# Altium schematic symbol library Library_Diana.SchLib: 310 symbols (part 2 of 3)
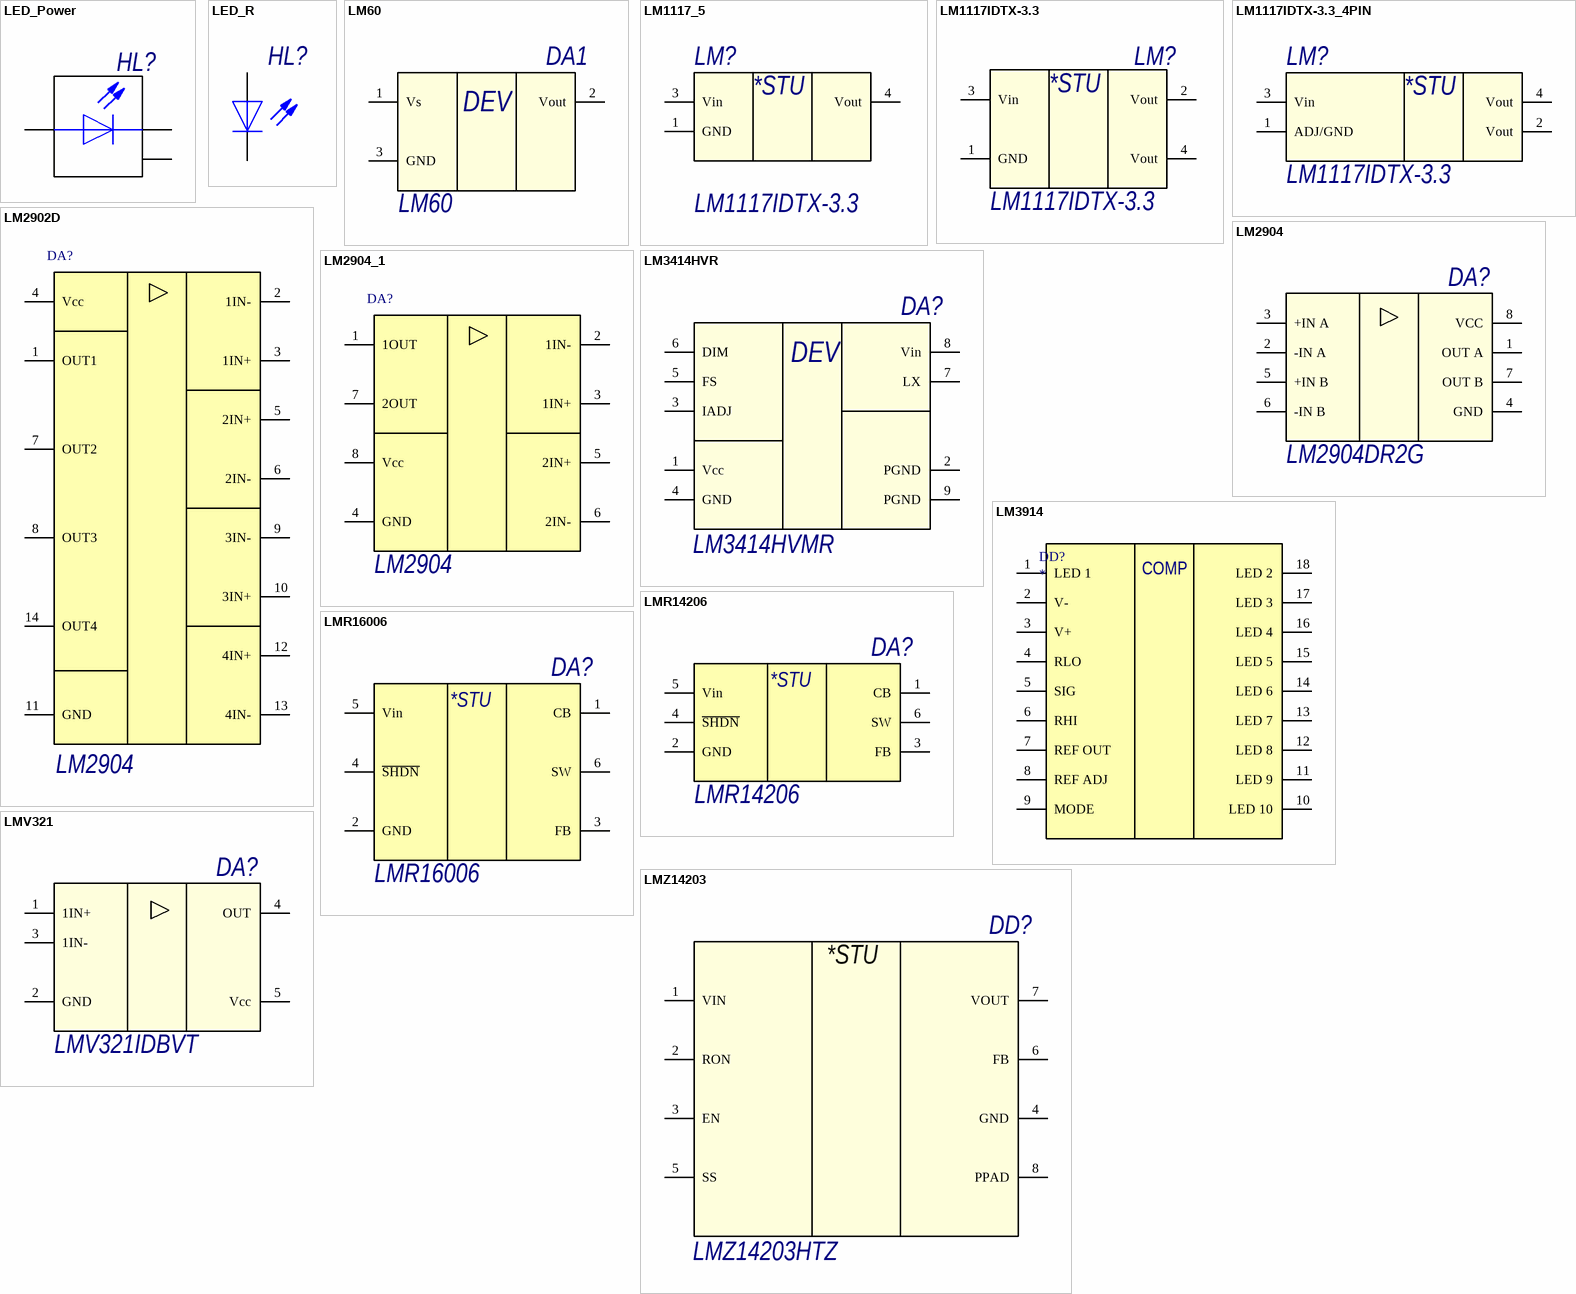
[diagram p41: symbols LED_Power to LMZ14203]

## LM3414HVR
designator DA?, comment LM3414HVMR
Драйвер светодиодов, понижающий 1А, 60В,; Part Description: 60W Common Anode Capable Constant Current Buck LED Driver Requires No Ext. Current Sensing Res; Manufacturer: Texas Instruments; Max Current: 1A; Frequency: 1MHz; VoltageOut: 60V; VoltageIn: 65V; Table: IC_Power; Part Number: LM3414HVMR; Type: Led Buck; Case: SO-8; Pin Count: 9; Status: test; HelpURL: http://www.ti.com/product/lm3414hv; ComponentLink1URL: http://www.ti.com/lit/ds/symlink/lm3414hv.pdf; ComponentLink1Description: Datasheet; Name: LM3414HVMR
footprint SO_8P
footprint SO8_A PowerPad
footprint SO8_A PowerPad
pins: 1 Vcc, 2 PGND, 3 IADJ, 4 GND, 5 FS, 6 DIM, 7 LX, 8 Vin, 9 PGND
text: DEV

## LM3914
designator DD?
Драйвер светодиодной инликатороной полосы
pins: 1 LED 1, 2 V-, 3 V+, 4 RLO, 5 SIG, 6 RHI, 7 REF OUT, 8 REF ADJ, 9 MODE, 10 LED 10, 11 LED 9, 12 LED 8, 13 LED 7, 14 LED 6, 15 LED 5, 16 LED 4, 17 LED 3, 18 LED 2
text: COMP

## LMR14206
designator DA?
DC\DC; Name: LMR14206
footprint SOT23-6_A
footprint SOT23-6_H
pins: 1 CB, 2 GND, 3 FB, 4 ~{SHDN}, 5 Vin, 6 SW
text: *STU

## LMR16006
designator DA?
DC\DC; Name: LMR16006
footprint SOT23-6_A
footprint SOT23-6_H
pins: 1 CB, 2 GND, 3 FB, 4 ~{SHDN}, 5 Vin, 6 SW
text: *STU

## LMV321
designator DA?, comment LMV321IDBVT
Операционный усилитель Rail-to-rail
pins: 1 1IN+, 2 GND, 3 1IN-, 4 OUT, 5 Vcc

## LMZ14203
designator DD?, comment LMZ14203HTZ
LMZ14203 SIMPLE SWITCHER® 6-V to 42-V, 3-A Power Module; Name: LMZ14203HTZ
footprint NDW
pins: 1 VIN, 2 RON, 3 EN, 4 GND, 5 SS, 6 FB, 7 VOUT, 8 PPAD
text: *STU

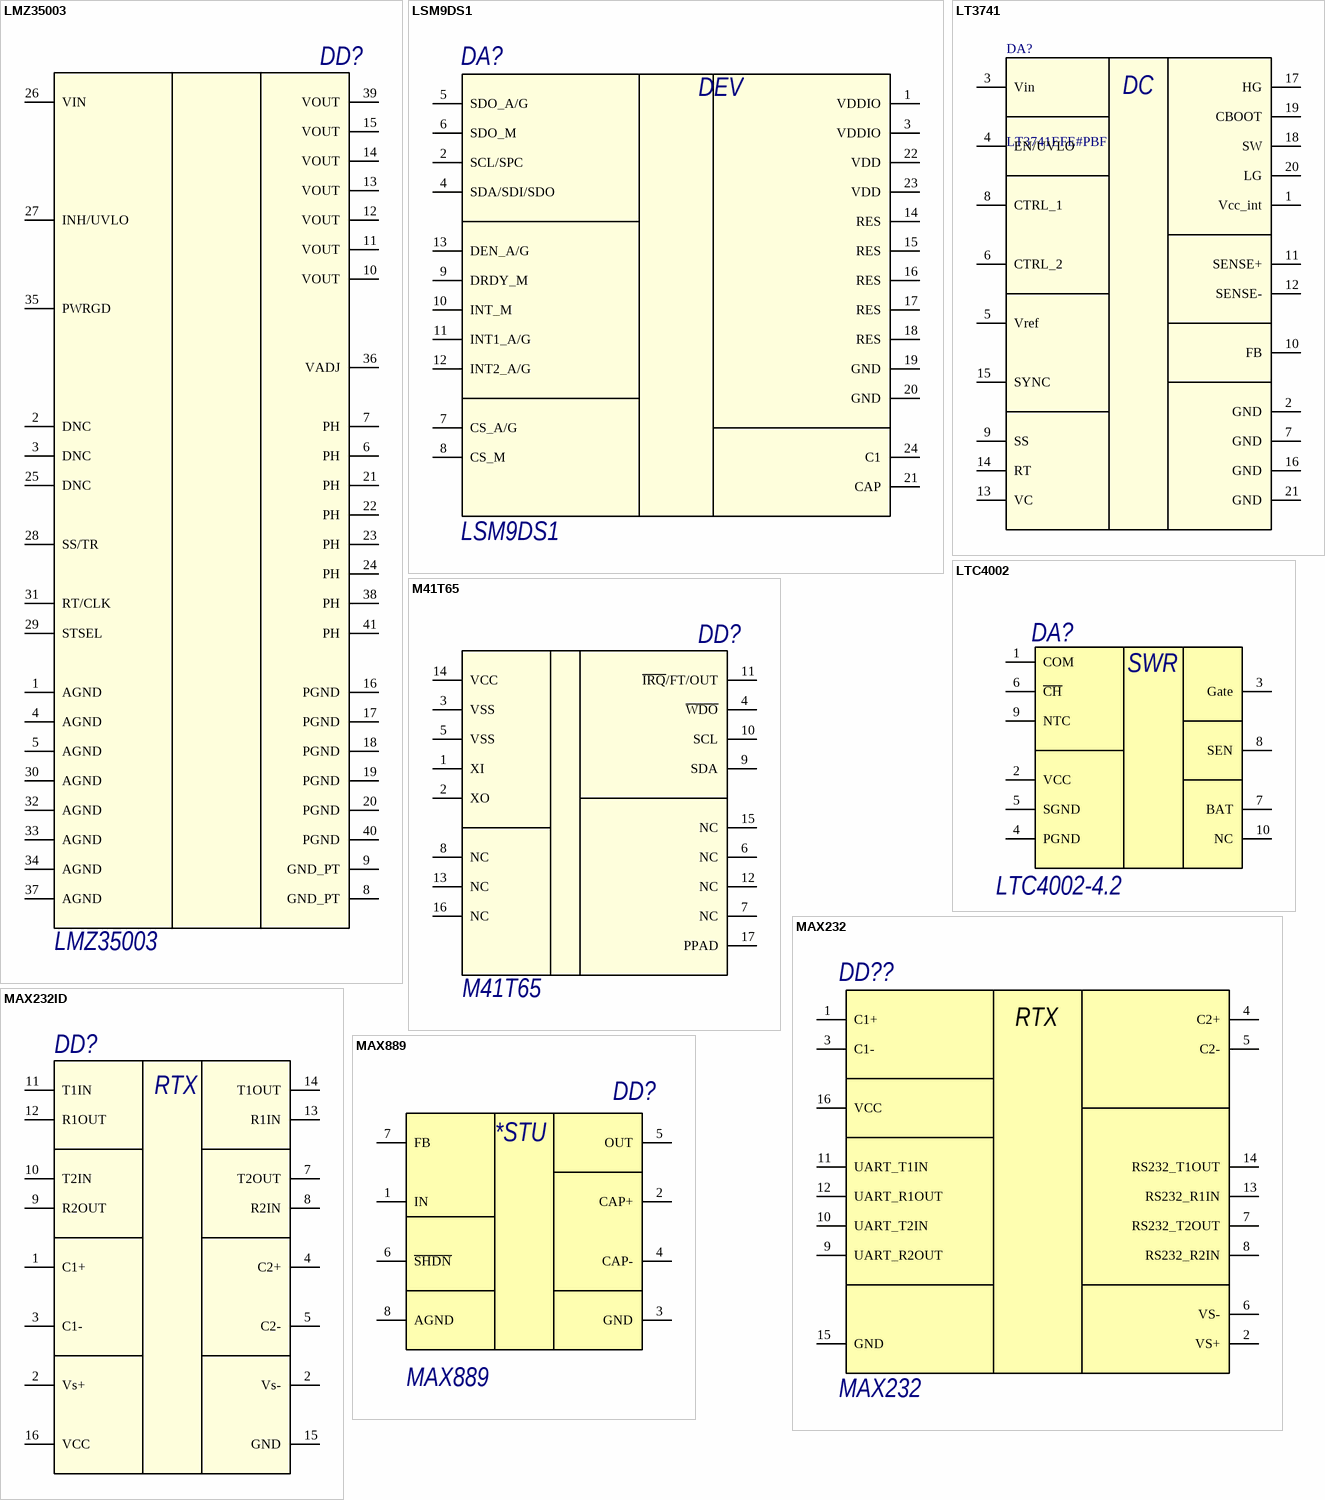
[diagram p11: symbols LMZ35003 to MAX889]

## LMZ35003
designator DD?
7-V to 50-V Input, 2.5-A Step-Down, Integrated Power Solution; Name: LMZ35003
footprint PB1QFN
pins: 1 AGND, 2 DNC, 3 DNC, 4 AGND, 5 AGND, 6 PH, 7 PH, 8 GND_PT, 9 GND_PT, 10 VOUT, 11 VOUT, 12 VOUT, 13 VOUT, 14 VOUT, 15 VOUT, 16 PGND, 17 PGND, 18 PGND, 19 PGND, 20 PGND, 21 PH, 22 PH, 23 PH, 24 PH, 25 DNC, 26 VIN, 27 INH/UVLO, 28 SS/TR, 29 STSEL, 30 AGND, 31 RT/CLK, 32 AGND, 33 AGND, 34 AGND, 35 PWRGD, 36 VADJ, 37 AGND, 38 PH, 39 VOUT, 40 PGND, 41 PH

## LSM9DS1
designator DA?
Гироскоп, акселерометр, магнитоиметр; Manufacture: STMicroelectronics; Name: LSM9DS1
footprint LGA-24 (3,5x3x3mm, LSM9DS1)
pins: 1 VDDIO, 2 SCL/SPC, 3 VDDIO, 4 SDA/SDI/SDO, 5 SDO_A/G, 6 SDO_M, 7 CS_A/G, 8 CS_M, 9 DRDY_M, 10 INT_M, 11 INT1_A/G, 12 INT2_A/G, 13 DEN_A/G, 14 RES, 15 RES, 16 RES, 17 RES, 18 RES, 19 GND, 20 GND, 21 CAP, 22 VDD, 23 VDD, 24 C1
text: DEV

## LT3741
designator DA?, comment LT3741EFE#PBF
Step-Down Controller, Constant Voltage
pins: 1 Vcc_int (power), 2 GND (power), 3 Vin (power), 4 EN/UVLO (power), 5 Vref (power), 6 CTRL_2 (power), 7 GND (power), 8 CTRL_1 (power), 9 SS (power), 10 FB (power), 11 SENSE+ (power), 12 SENSE- (power), 13 VC (power), 14 RT (power), 15 SYNC (power), 16 GND (power), 17 HG (power), 18 SW (power), 19 CBOOT (power), 20 LG (power), 21 GND (power)
text: DC

## LTC4002
designator DA?, comment LTC4002-4.2
1-cell LI-PO charger; Name: LTC4002-4.2
footprint DFN10_H
footprint DFN10_A
pins: 1 COM, 2 VCC, 3 Gate, 4 PGND, 5 SGND, 6 ~{CH}, 7 BAT, 8 SEN, 9 NTC, 10 NC
text: SWR

## M41T65
designator DD?
Low-power serial real-time clocks (RTCs) with alarm; Name: M41T65
footprint QFN16-3X3mm
pins: 1 XI, 2 XO, 3 VSS, 4 ~{WDO}, 5 VSS, 6 NC, 7 NC, 8 NC, 9 SDA, 10 SCL, 11 ~{IRQ}/FT/OUT, 12 NC, 13 NC, 14 VCC, 15 NC, 16 NC, 17 PPAD

## MAX232
designator DD??
RS232 tranciever; Name: MAX232
footprint SOIC16
pins: 1 C1+, 2 VS+, 3 C1-, 4 C2+, 5 C2-, 6 VS-, 7 RS232_T2OUT, 8 RS232_R2IN, 9 UART_R2OUT, 10 UART_T2IN, 11 UART_T1IN, 12 UART_R1OUT, 13 RS232_R1IN, 14 RS232_T1OUT, 15 GND, 16 VCC
text: RTX

## MAX232ID
designator DD?
Dual EIA-232 Drivers/Receivers
pins: 1 C1+, 2 Vs+, 2 Vs-, 3 C1-, 4 C2+, 5 C2-, 7 T2OUT, 8 R2IN, 9 R2OUT, 10 T2IN, 11 T1IN, 12 R1OUT, 13 R1IN, 14 T1OUT, 15 GND, 16 VCC
text: RTX

## MAX889
designator DD?
инвертор; Name: MAX889
footprint SO8_H
footprint SO8_A
pins: 1 IN, 2 CAP+, 3 GND, 4 CAP-, 5 OUT, 6 ~{SHDN}, 7 FB, 8 AGND
text: *STU

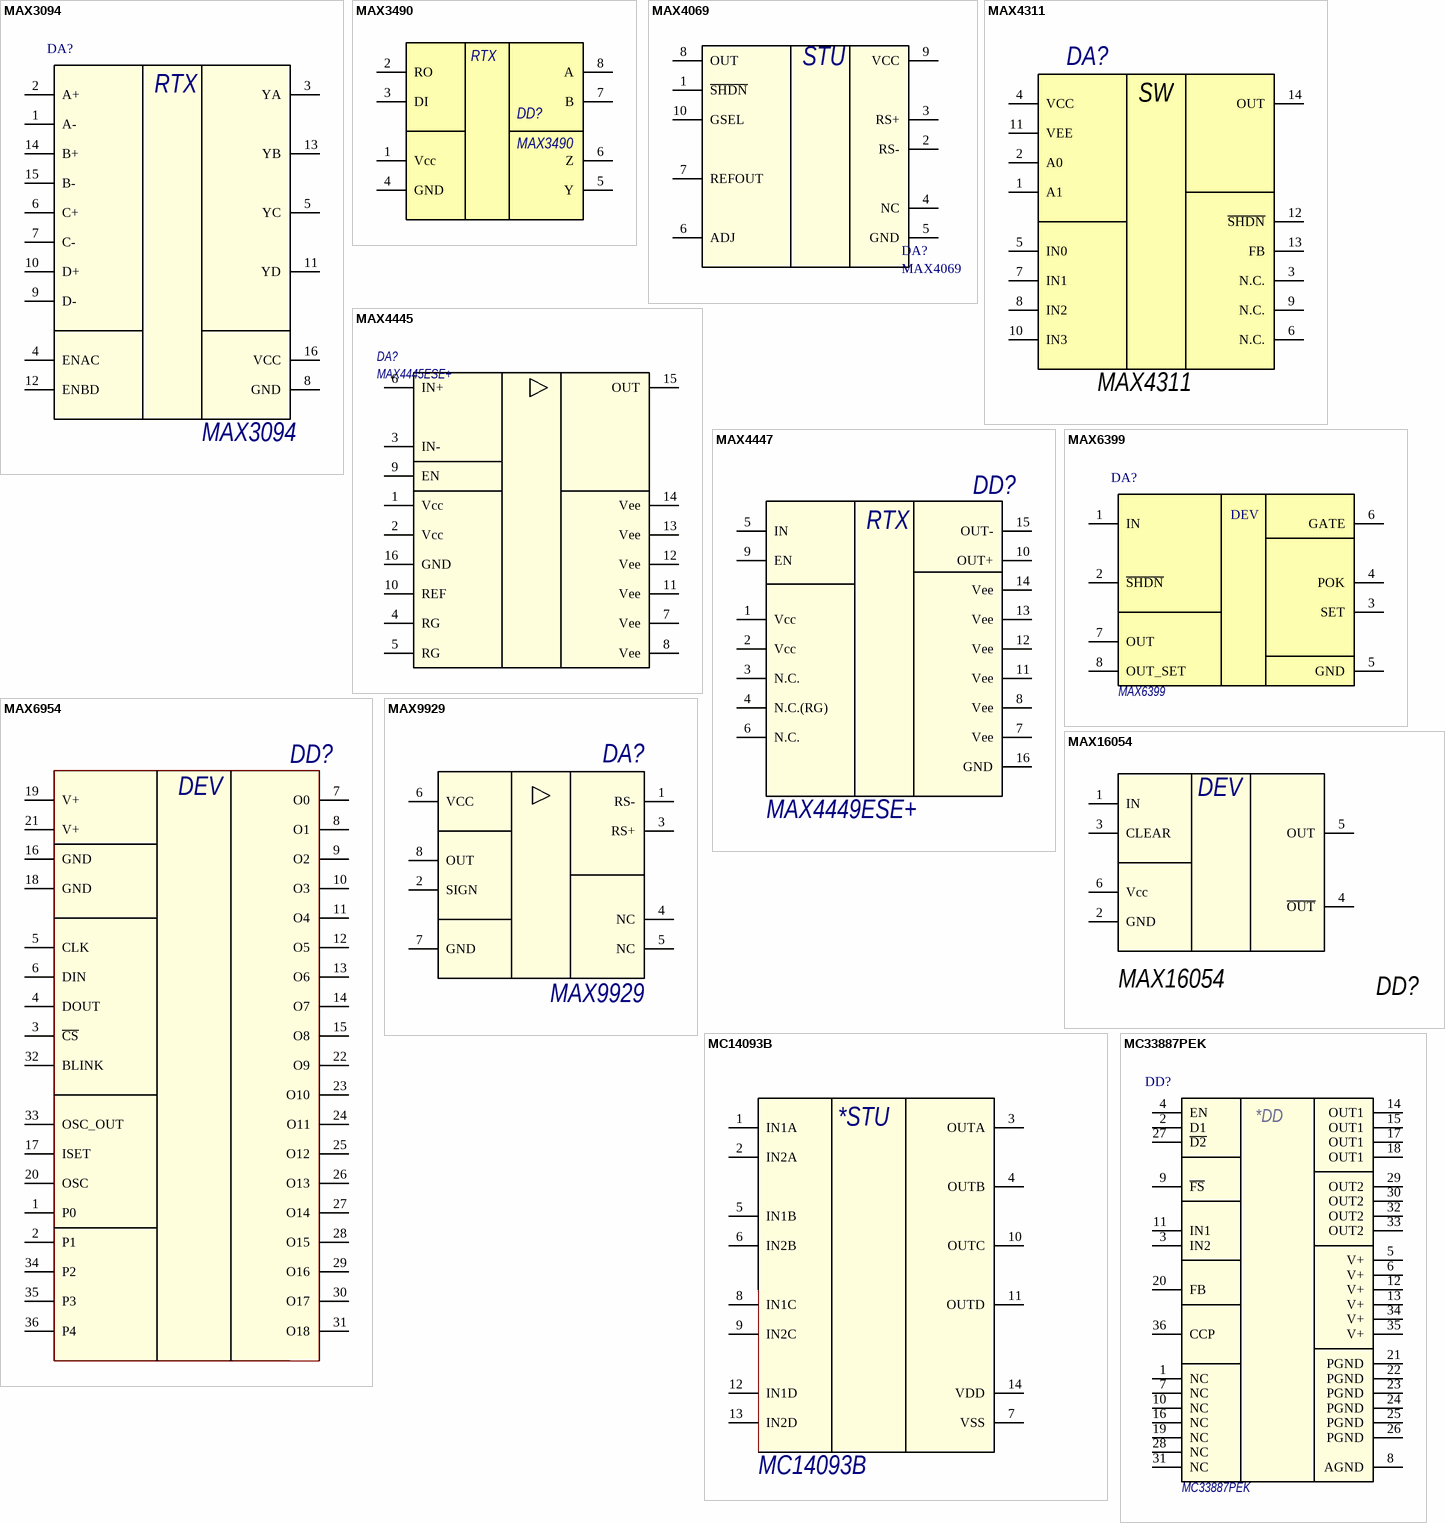
[diagram p12: symbols MAX3094 to MC33887PEK]

## MAX3094
designator DA?
приемник LVDS; Name: MAX3094
footprint TSSOP-16
pins: 1 A-, 2 A+, 3 YA, 4 ENAC, 5 YC, 6 C+, 7 C-, 8 GND, 9 D-, 10 D+, 11 YD, 12 ENBD, 13 YB, 14 B+, 15 B-, 16 VCC
text: RTX

## MAX3490
designator DD?
Преобразователь интерфесов RS-422/RS-485; Name: MAX3490
footprint SO8_A
pins: 1 Vcc, 2 RO, 3 DI, 4 GND, 5 Y, 6 Z, 7 B, 8 A
text: RTX

## MAX4069
designator DA?
Bidirectional, High-Side, Current-Sense  Amplifier
footprint uSOP-10_H
pins: 1 ~{SHDN}, 2 RS-, 3 RS+, 4 NC, 5 GND, 6 ADJ, 7 REFOUT, 8 OUT, 9 VCC, 10 GSEL
text: STU

## MAX4311
designator DA?
Демультиплексор/Декодер; Name: MAX4311
footprint TSSOP16_H
footprint SO14_14 NARROW SO (SOIC, 14-Leads, Body 8,65x3,90mm, Pitch 1,27mm, IPC Medium Density)
pins: 1 A1, 2 A0, 3 N.C., 4 VCC, 5 IN0, 6 N.C., 7 IN1, 8 IN2, 9 N.C., 10 IN3, 11 VEE, 12 ~{SHDN}, 13 FB, 14 OUT
text: SW

## MAX4445
designator DA?, comment MAX4445ESE+
Приемник дифф. линии; Name: MAX4445ESE+
footprint SO-16_M (16-Pin Small Outline Integrated Circuit 1.27 mm Pitch, IPC Low Density)
pins: 1 Vcc, 2 Vcc, 3 IN-, 4 RG, 5 RG, 6 IN+, 7 Vee, 8 Vee, 9 EN, 10 REF, 11 Vee, 12 Vee, 13 Vee, 14 Vee, 15 OUT, 16 GND

## MAX4447
designator DD?, comment MAX4449ESE+
Дифф. драйвер; Name: MAX4449ESE+
footprint SO-16_M (16-Pin Small Outline Integrated Circuit 1.27 mm Pitch, IPC Low Density)
pins: 1 Vcc, 2 Vcc, 3 N.C., 4 N.C.(RG), 5 IN, 6 N.C., 7 Vee, 8 Vee, 9 EN, 10 OUT+, 11 Vee, 12 Vee, 13 Vee, 14 Vee, 15 OUT-, 16 GND
text: RTX

## MAX6399
designator DA?
OVLO/UVLO; Name: MAX6399
footprint SO8_H
footprint SO8_A
footprint DFN-8LD (10 LEAD DUAL FLAT PACKAGE)
pins: 1 IN, 2 ~{SHDN}, 3 SET, 4 POK, 5 GND, 6 GATE, 7 OUT, 8 OUT_SET
text: DEV

## MAX6954
designator DD?  (value not drawn)
LED Display Driver with I/O Expander and Key Scan
footprint Model Name (Footprint not found)
pins: 1 P0, 2 P1, 3 ~{CS}, 4 DOUT, 5 CLK, 6 DIN, 7 O0, 8 O1, 9 O2, 10 O3, 11 O4, 12 O5, 13 O6, 14 O7, 15 O8, 16 GND, 17 ISET, 18 GND, 19 V+, 20 OSC, 21 V+, 22 O9, 23 O10, 24 O11, 25 O12, 26 O13, 27 O14, 28 O15, 29 O16, 30 O17, 31 O18, 32 BLINK, 33 OSC_OUT, 34 P2, 35 P3, 36 P4
text: DEV

## MAX9929
designator DA?
Токоизмерительный усилитель; T (°C) Ambient: -40...+125; Gain: 50V/V; Vсс: 5В; Vcmr: 28В; Name: MAX9929
footprint uMAX8
pins: 1 RS-, 2 SIGN, 3 RS+, 4 NC, 5 NC, 6 VCC, 7 GND, 8 OUT

## MAX16054
designator DD?  Name: MAX16054  (hidden comment: *)
ON/OFF Controller
footprint SOT23-6_A
footprint SOT23-6_H
pins: 1 IN, 2 GND, 3 CLEAR, 4 ~{OUT}, 5 OUT, 6 Vcc
text: DEV

## MC14093B
designator DD?
Quad 2-Input NAND  Schmitt Trigger; T (°C) Ambient: -55...+125; Name: MC14093B
footprint TSSOP14_A
pins: 1 IN1A, 2 IN2A, 3 OUTA, 4 OUTB, 5 IN1B, 6 IN2B, 7 VSS, 8 IN1C, 9 IN2C, 10 OUTC, 11 OUTD, 12 IN1D, 13 IN2D, 14 VDD
text: *STU

## MC33887PEK
designator DD?
Силовой мост; Name: MC33887PEK
footprint PQFN36
pins: 1 NC, 2 D1, 3 IN2, 4 EN, 5 V+, 6 V+, 7 NC, 8 AGND, 9 ~{FS}, 10 NC, 11 IN1, 12 V+, 13 V+, 14 OUT1, 15 OUT1, 16 NC, 17 OUT1, 18 OUT1, 19 NC, 20 FB, 21 PGND, 22 PGND, 23 PGND, 24 PGND, 25 PGND, 26 PGND, 27 ~{D2}, 28 NC, 29 OUT2, 30 OUT2, 31 NC, 32 OUT2, 33 OUT2, 34 V+, 35 V+, 36 CCP
text: *DD

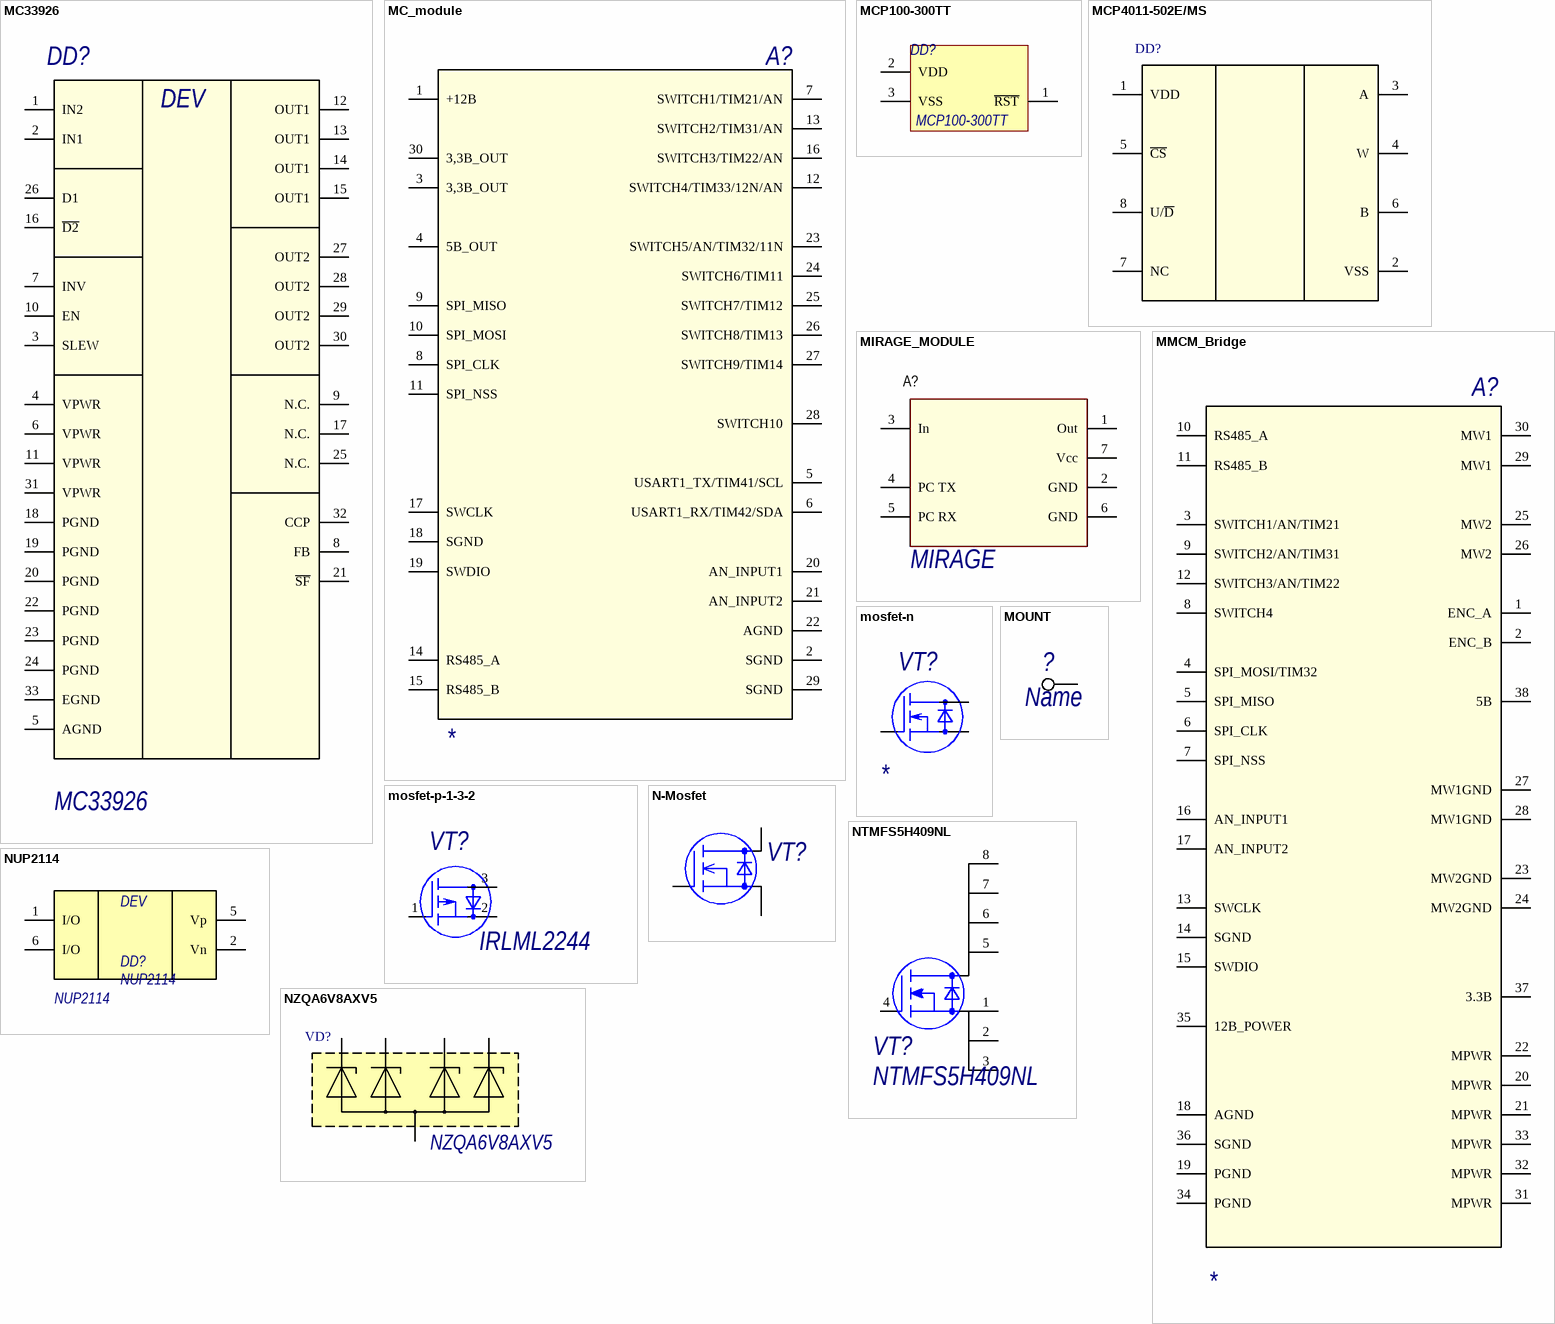
[diagram p13: symbols MC33926 to NZQA6V8AXV5]

## MC33926
designator DD?
A throttle control H-bridge 5А; Name: MC33926
footprint PQFN32
pins: 1 IN2, 2 IN1, 3 SLEW, 4 VPWR, 5 AGND, 6 VPWR, 7 INV, 8 FB, 9 N.C., 10 EN, 11 VPWR, 12 OUT1, 13 OUT1, 14 OUT1, 15 OUT1, 16 ~{D2}, 17 N.C., 18 PGND, 19 PGND, 20 PGND, 21 ~{SF}, 22 PGND, 23 PGND, 24 PGND, 25 N.C., 26 D1, 27 OUT2, 28 OUT2, 29 OUT2, 30 OUT2, 31 VPWR, 32 CCP, 33 EGND
text: DEV

## MC_module
designator A?
STM32F103_Module
footprint MC_Mod
pins: 1 +12В, 2 SGND, 3 3,3В_OUT, 4 5В_OUT, 5 USART1_TX/TIM41/SCL, 6 USART1_RX/TIM42/SDA, 7 SWITCH1/TIM21/AN, 8 SPI_CLK, 9 SPI_MISO, 10 SPI_MOSI, 11 SPI_NSS, 12 SWITCH4/TIM33/12N/AN, 13 SWITCH2/TIM31/AN, 14 RS485_A, 15 RS485_B, 16 SWITCH3/TIM22/AN, 17 SWCLK, 18 SGND, 19 SWDIO, 20 AN_INPUT1, 21 AN_INPUT2, 22 AGND, 23 SWITCH5/AN/TIM32/11N, 24 SWITCH6/TIM11, 25 SWITCH7/TIM12, 26 SWITCH8/TIM13, 27 SWITCH9/TIM14, 28 SWITCH10, 29 SGND, 30 3,3В_OUT

## MCP100-300TT
designator DD?
Manufacturer: Microchip Technology; ComponentLink1URL: http://ww1.microchip.com/downloads/en/DeviceDoc/11187f.pdf; ComponentLink1Description: Datasheet; Package: SOT23-3
footprint SOT23-3_A
pins: 1 ~{RST}, 2 VDD, 3 VSS

## MCP4011-502E/MS
designator DD?
Low Cost 64-Step Voltage Digital POT
pins: 1 VDD, 2 VSS, 3 A, 4 W, 5 ~{CS}, 6 B, 7 NC, 8 U/~{D}

## MIRAGE_MODULE
designator A?  Name: MIRAGE  (hidden comment: MIRAGE_MODULE)
Видео маскиратор/демаскиратор
footprint MIRAGE_MODULE
pins: 1 Out, 2 GND, 3 In, 4 PC TX, 5 PC RX, 6 GND, 7 Vcc

## MMCM_Bridge
designator A?
FULL BRIDGE DC MOTOR DRIVER
pins: 1 ENC_A, 2 ENC_B, 3 SWITCH1/AN/TIM21, 4 SPI_MOSI/TIM32, 5 SPI_MISO, 6 SPI_CLK, 7 SPI_NSS, 8 SWITCH4, 9 SWITCH2/AN/TIM31, 10 RS485_A, 11 RS485_B, 12 SWITCH3/AN/TIM22, 13 SWCLK, 14 SGND, 15 SWDIO, 16 AN_INPUT1, 17 AN_INPUT2, 18 AGND, 19 PGND, 20 MPWR, 21 MPWR, 22 MPWR, 23 MW2GND, 24 MW2GND, 25 MW2, 26 MW2, 27 MW1GND, 28 MW1GND, 29 MW1, 30 MW1, 31 MPWR, 32 MPWR, 33 MPWR, 34 PGND, 35 12B_POWER, 36 SGND, 37 3.3B, 38 5B

## mosfet-n
designator VT?
Name: *
footprint SOT23-3 (SOT23, 3-Leads, Body 2,90x2,30mm, Pitch 0,95mm, IPC Medium Density)
pins: 1 G, 2 S, 3 D

## mosfet-p-1-3-2
designator VT?, comment IRLML2244
Полевой P-канальный транзистор; Name: IRLML2244
pins: 1 G, 2 S, 3 D

## MOUNT
designator ?, comment Name
MOUNT; Name: Name
footprint PLS2-1
footprint 0.8_1.4x1.4_square
footprint Model Name (Footprint not found)
footprint Testpoint_KEY5000
pins: 1

## N-Mosfet
designator VT?
N-канальный транзистор; Vgs: *; Rds: *; Vds: *
footprint КТ-111В-1.02 (КТ-111В-1.02 , 3-х выводной, металлокерамический радиационно стойкий)
pins: 1 G, 2 S, 3 D

## NTMFS5H409NL
designator VT?
40 V, 1.1 m, 270 A, Single N−Channel; Name: NTMFS5H409NL
footprint DFN5
pins: 1 S, 2 S, 3 S, 4 G, 5 D, 6 D, 7 D, 8 D

## NUP2114
designator DD?
Супрессор; Name: NUP2114
footprint TSOP-6 (TSOP, 6-Leads, Body 3,1x1,7mm (max), Pitch 0,95mm, IPC Medium Density)
pins: 1 I/O, 2 Vn, 5 Vp, 6 I/O
text: DEV

## NZQA6V8AXV5
designator VD?
Сборка TVS-диодов; Name: NZQA6V8AXV5
footprint SOT553-5_A
footprint SOT553-5_H
pins: 1, 2, 3, 4, 5

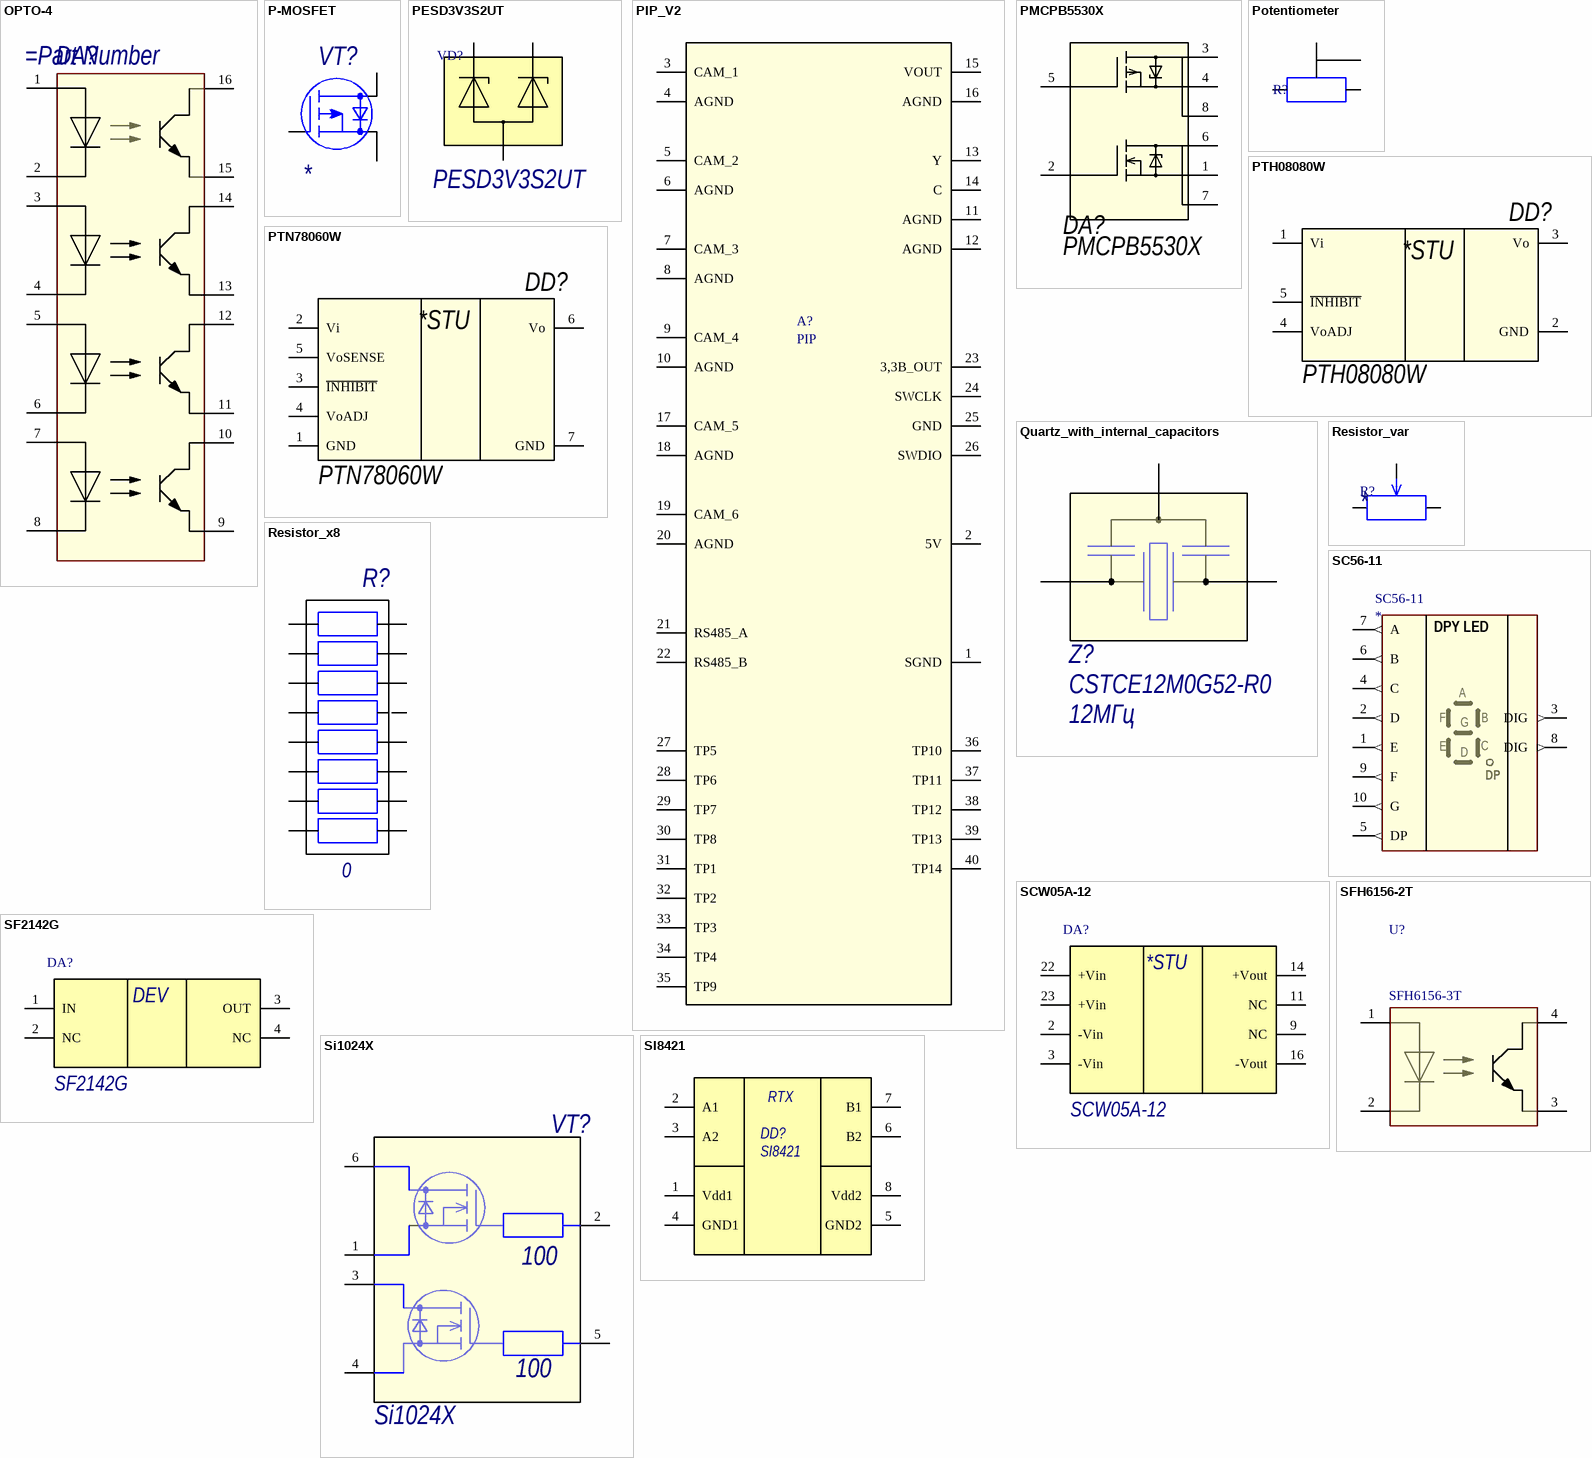
[diagram p14: symbols OPTO-4 to SI8421]

## OPTO-4
designator DA?
Опторазвязка х4
pins: 1, 2, 3, 4, 5, 6, 7, 8, 9, 10, 11, 12, 13, 14, 15, 16

## P-MOSFET
designator VT?
P-MOSFET; Name: *; Vds: *; Vgs: *; Ids: *
footprint SOT23-3_A
pins: 1 G, 2 S, 3 D

## PESD3V3S2UT
designator VD?
Сборка TVS-диодов; Name: PESD3V3S2UT
footprint SOT23-3_H
pins: 1, 2, 3

## PIP_V2
designator A?, comment PIP
Pict_IN_Pict_Mod
pins: 1 SGND, 2 5V, 3 CAM_1, 4 AGND, 5 CAM_2, 6 AGND, 7 CAM_3, 8 AGND, 9 CAM_4, 10 AGND, 11 AGND, 12 AGND, 13 Y, 14 C, 15 VOUT, 16 AGND, 17 CAM_5, 18 AGND, 19 CAM_6, 20 AGND, 21 RS485_A, 22 RS485_B, 23 3,3B_OUT, 24 SWCLK, 25 GND, 26 SWDIO, 27 TP5, 28 TP6, 29 TP7, 30 TP8, 31 TP1, 32 TP2, 33 TP3, 34 TP4, 35 TP9, 36 TP10, 37 TP11, 38 TP12, 39 TP13, 40 TP14

## PMCPB5530X
designator DA?  Name: PMCPB5530X  (hidden comment: *)
N & P MOSFET
footprint SOT1118
pins: 1, 2, 3, 4, 5, 6, 7, 8

## Potentiometer
designator R?
Potentiometer
pins: 1, 2, 3

## PTH08080W
designator DD?
DC-DC 2.5А; Name: PTH08080W
footprint PTN7860
pins: 1 Vi, 2 GND, 3 Vo, 4 VoADJ, 5 ~{INHIBIT}
text: *STU

## PTN78060W
designator DD?
Name: PTN78060W
footprint PTN7860
pins: 1 GND, 2 Vi, 3 ~{INHIBIT}, 4 VoADJ, 5 VoSENSE, 6 Vo, 7 GND
text: *STU

## Quartz_with_internal_capacitors
designator Z?, comment CSTCE12M0G52-R0  value 12МГц
Кварцевый резорнатор со встроенными нагрузочными конденсаторами; Manufacturer: Murata Electronics; T (°C) Ambient: -40...+125; Tolerance @25°C: 0,5%; Name: CSTCE12M0G52-R0
footprint CSTCE
pins: 1, 2, 3

## Resistor_var
designator R?
Value: *
footprint Res_trimmer
pins: 1, 2, 3

## Resistor_x8
designator R?, comment 0
Резистор; Value: 0
footprint R0402_A
footprint R0402_H
footprint R0603_H
footprint R0805_A
footprint R0805_H
footprint R1206_A
footprint R1206_H
footprint R1210_A
footprint R1210_H
footprint R2010_A
footprint R2010_H
footprint R2512_A
footprint R2512_H
footprint R0603_A
footprint R0603x4
footprint R0603x8
pins: 1, 2, 3, 4, 5, 6, 7, 8, 9, 10, 11, 12, 13, 14, 15, 16

## SC56-11
designator SC56-11
7-ми сегментный 1 разрядный цифровой индикатор; Назначение: Длительность
pins: 1 E (out), 2 D (out), 3 DIG (out), 4 C (out), 5 DP (out), 6 B (out), 7 A (out), 8 DIG (out), 9 F (out), 10 G (out)
text: DPY LED

## SCW05A-12
designator DA?
DC\DC; Name: SCW05A-12
footprint SCW05
pins: 2 -Vin, 3 -Vin, 9 NC, 11 NC, 14 +Vout, 16 -Vout, 22 +Vin, 23 +Vin
text: *STU

## SF2142G
designator DA?
867.5 MHz SAW Filter; Name: SF2142G
footprint SM2520-4_A
pins: 1 IN, 2 NC, 3 OUT, 4 NC
text: DEV

## SFH6156-2T
designator U?, comment SFH6156-3T
4-Pin Phototransistor Optocoupler; Published: 24-Mar-1999; LatestRevisionDate: 04-Mar-2005; LatestRevisionNote: Sch pins 3 & 4 Swapped.; DatasheetVersion: Nov-2003; PackageReference: DIP-4; Publisher: Altium Limited
footprint DIP-4 (DIP; 4 Leads; Row Spacing 7.62 mm; Pitch 2.54 mm)
pins: 1, 2, 3, 4

## Si1024X
designator VT?
N-канальный транзистор сдвоенный; Manufacturer: Vishay; T (°C) Ambient: -55...+150; Vgs: 6В; Rds: 700mOhm; Id: 600мА; Vds: 20В; Name: Si1024X
pins: 1 S1, 2 G1, 3 D2, 4 S2, 5 G2, 6 D1
text: 100

## SI8421
designator DD?
Name: SI8421
footprint SOIC127P600X175-8N (SOIC, 8-Leads, Body 5,0x4,0mm (max), Pitch 1,27mm, IPC Medium Density)
pins: 1 Vdd1, 2 A1, 3 A2, 4 GND1, 5 GND2, 6 B2, 7 B1, 8 Vdd2
text: RTX

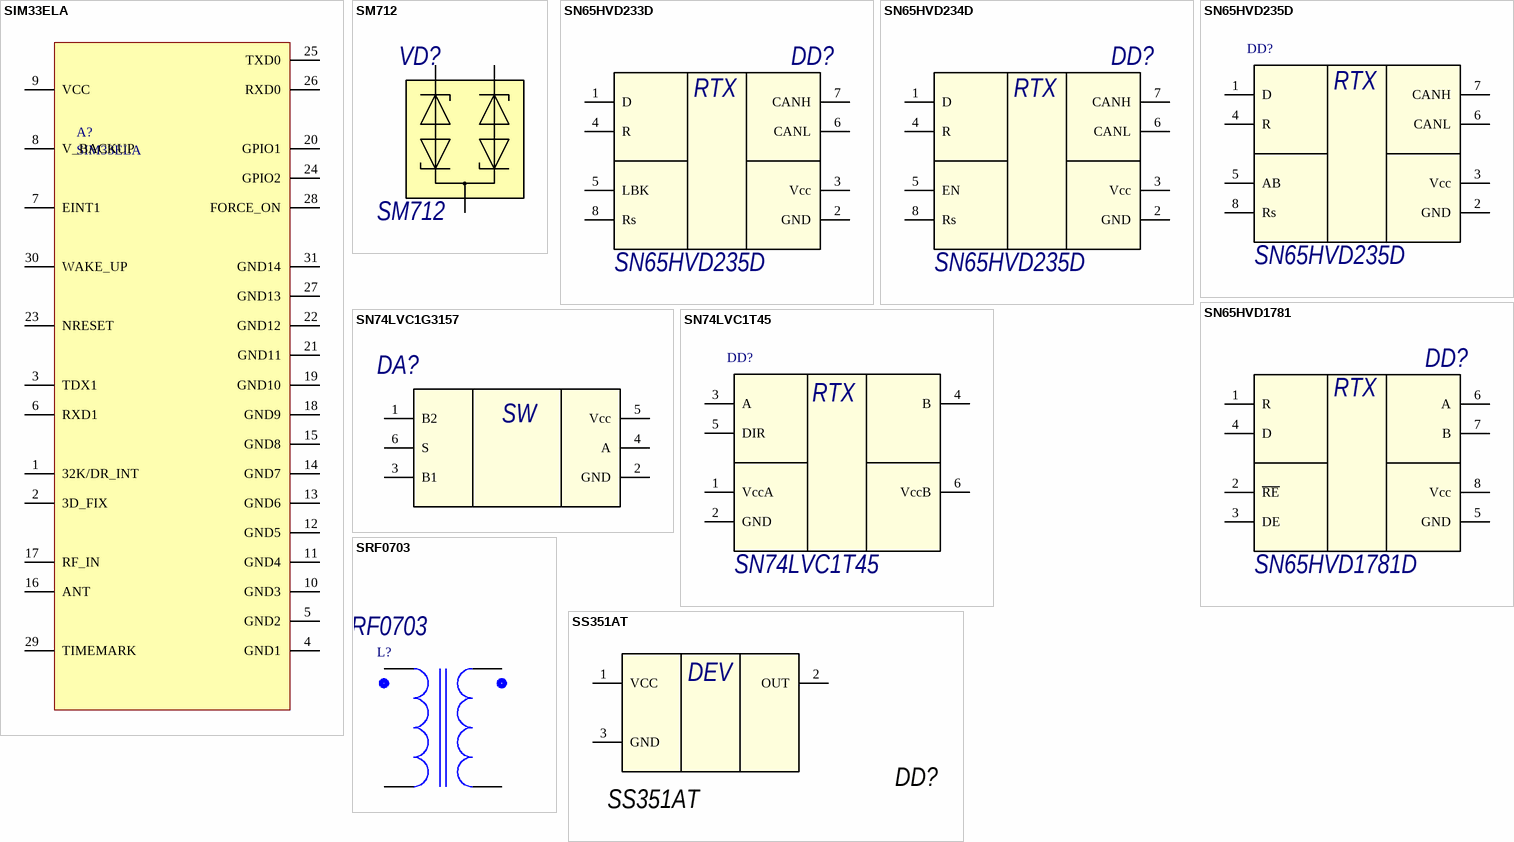
[diagram p15: symbols SIM33ELA to SS351AT]

## SIM33ELA
designator A?
Manufacturer: SimCom; ComponentLink1URL: http://www.macrogroup.ru/catalog/partnumber/1485; ComponentLink1Description: Datasheet
pins: 1 32K/DR_INT, 2 3D_FIX, 3 TDX1, 4 GND1, 5 GND2, 6 RXD1, 7 EINT1, 8 V_BACKUP, 9 VCC, 10 GND3, 11 GND4, 12 GND5, 13 GND6, 14 GND7, 15 GND8, 16 ANT, 17 RF_IN, 18 GND9, 19 GND10, 20 GPIO1, 21 GND11, 22 GND12, 23 NRESET, 24 GPIO2, 25 TXD0, 26 RXD0, 27 GND13, 28 FORCE_ON, 29 TIMEMARK, 30 WAKE_UP, 31 GND14

## SM712
designator VD?
Сборка TVS-диодов; Name: SM712
footprint SOT23-3_A
footprint SOT23-3_H
pins: 1, 2, 3

## SN65HVD233D
designator DD?, comment SN65HVD235D
Приемопередатчик CAN; Name: SN65HVD235D
footprint SO8_A
footprint SO8_H
pins: 1 D, 2 GND, 3 Vcc, 4 R, 5 LBK, 6 CANL, 7 CANH, 8 Rs
text: RTX

## SN65HVD234D
designator DD?, comment SN65HVD235D
Приемопередатчик CAN; Name: SN65HVD235D
footprint SO8_A
footprint SO8_H
pins: 1 D, 2 GND, 3 Vcc, 4 R, 5 EN, 6 CANL, 7 CANH, 8 Rs
text: RTX

## SN65HVD235D
designator DD?
Приемопередатчик CAN; Name: SN65HVD235D
footprint SO8_A
footprint SO8_H
pins: 1 D, 2 GND, 3 Vcc, 4 R, 5 AB, 6 CANL, 7 CANH, 8 Rs
text: RTX

## SN65HVD1781
designator DD?, comment SN65HVD1781D
Приемопередатчик RS485; Name: SN65HVD1781D
footprint SO8_A
footprint SO8_H
pins: 1 R, 2 ~{RE}, 3 DE, 4 D, 5 GND, 6 A, 7 B, 8 Vcc
text: RTX

## SN74LVC1G3157
designator DA?  (value not drawn)
Аналоговый переключатель, двухпозиционный
pins: 1 B2 (power), 2 GND (power), 3 B1 (power), 4 A (power), 5 Vcc (power), 6 S (power)
text: SW

## SN74LVC1T45
designator DD?
Преобразователь уровней; Name: SN74LVC1T45
pins: 1 VccA, 2 GND, 3 A, 4 B, 5 DIR, 6 VccB
text: RTX

## SRF0703
designator L?, comment Name: SRF0703  (hidden comment: XXX)
Синфазный дроссель; Value: XXX
footprint SRF0703
pins: 1, 2, 3, 4

## SS351AT
designator DD?  (value not drawn)
SS351AT; Name: SS351AT
footprint SOT23-3_A
footprint SOT23-3_H
footprint TO-92
pins: 1 VCC, 2 OUT, 3 GND
text: DEV

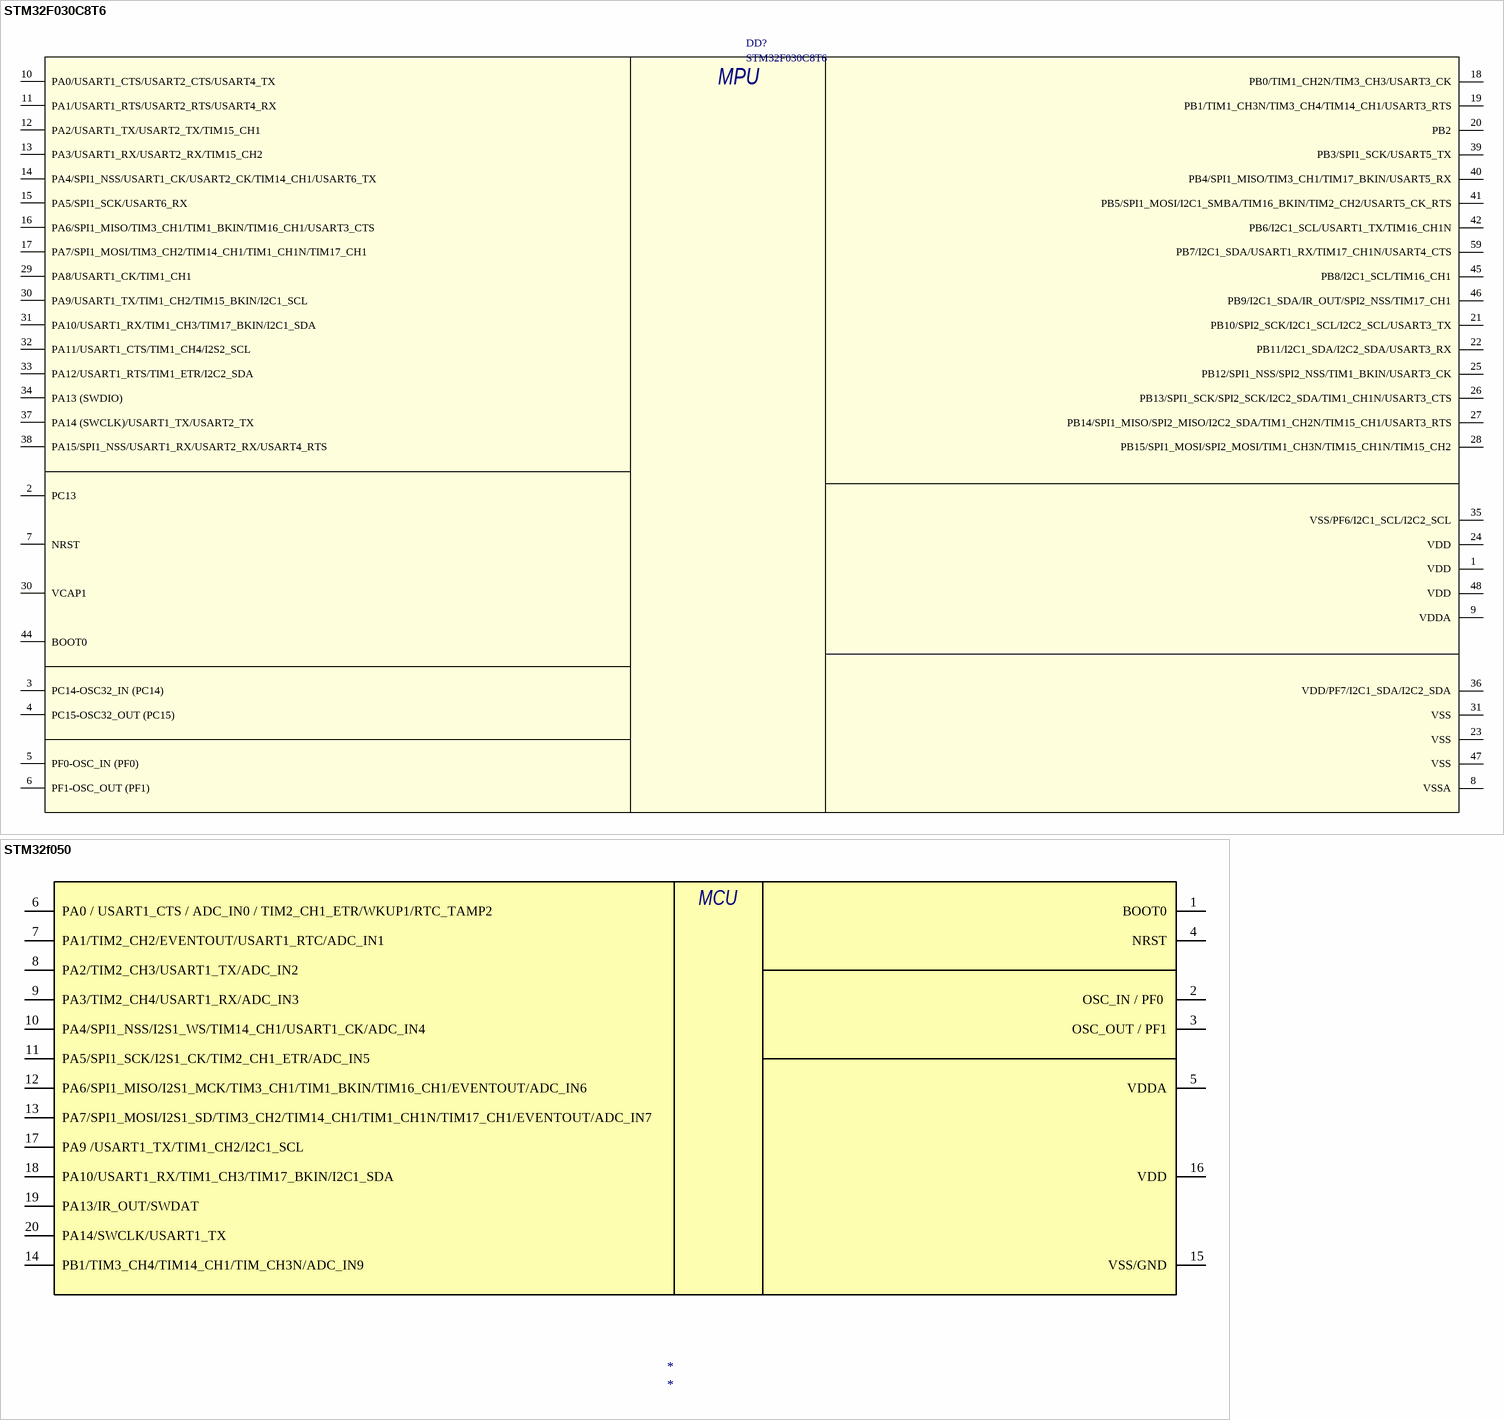
[diagram p16: symbols STM32F030C8T6 to STM32f050]

## STM32F030C8T6
designator DD?
32-битный микроконтроллер; Name: STM32F030C8T6
pins: 1 VDD, 2 PC13, 3 PC14-OSC32_IN (PC14), 4 PC15-OSC32_OUT (PC15), 5 PF0-OSC_IN (PF0), 6 PF1-OSC_OUT (PF1), 7 NRST, 8 VSSA, 9 VDDA, 10 PA0/USART1_CTS/USART2_CTS/USART4_TX, 11 PA1/USART1_RTS/USART2_RTS/USART4_RX, 12 PA2/USART1_TX/USART2_TX/TIM15_CH1, 13 PA3/USART1_RX/USART2_RX/TIM15_CH2, 14 PA4/SPI1_NSS/USART1_CK/USART2_CK/TIM14_CH1/USART6_TX, 15 PA5/SPI1_SCK/USART6_RX, 16 PA6/SPI1_MISO/TIM3_CH1/TIM1_BKIN/TIM16_CH1/USART3_CTS, 17 PA7/SPI1_MOSI/TIM3_CH2/TIM14_CH1/TIM1_CH1N/TIM17_CH1, 18 PB0/TIM1_CH2N/TIM3_CH3/USART3_CK, 19 PB1/TIM1_CH3N/TIM3_CH4/TIM14_CH1/USART3_RTS, 20 PB2, 21 PB10/SPI2_SCK/I2C1_SCL/I2C2_SCL/USART3_TX, 22 PB11/I2C1_SDA/I2C2_SDA/USART3_RX, 23 VSS, 24 VDD, 25 PB12/SPI1_NSS/SPI2_NSS/TIM1_BKIN/USART3_CK, 26 PB13/SPI1_SCK/SPI2_SCK/I2C2_SDA/TIM1_CH1N/USART3_CTS, 27 PB14/SPI1_MISO/SPI2_MISO/I2C2_SDA/TIM1_CH2N/TIM15_CH1/USART3_RTS, 28 PB15/SPI1_MOSI/SPI2_MOSI/TIM1_CH3N/TIM15_CH1N/TIM15_CH2, 29 PA8/USART1_CK/TIM1_CH1, 30 PA9/USART1_TX/TIM1_CH2/TIM15_BKIN/I2C1_SCL, 30 VCAP1, 31 PA10/USART1_RX/TIM1_CH3/TIM17_BKIN/I2C1_SDA, 31 VSS, 32 PA11/USART1_CTS/TIM1_CH4/I2S2_SCL, 33 PA12/USART1_RTS/TIM1_ETR/I2C2_SDA, 34 PA13 (SWDIO), 35 VSS/PF6/I2C1_SCL/I2C2_SCL, 36 VDD/PF7/I2C1_SDA/I2C2_SDA, 37 PA14 (SWCLK)/USART1_TX/USART2_TX, 38 PA15/SPI1_NSS/USART1_RX/USART2_RX/USART4_RTS, 39 PB3/SPI1_SCK/USART5_TX, 40 PB4/SPI1_MISO/TIM3_CH1/TIM17_BKIN/USART5_RX, 41 PB5/SPI1_MOSI/I2C1_SMBA/TIM16_BKIN/TIM2_CH2/USART5_CK_RTS, 42 PB6/I2C1_SCL/USART1_TX/TIM16_CH1N, 44 BOOT0, 45 PB8/I2C1_SCL/TIM16_CH1, 46 PB9/I2C1_SDA/IR_OUT/SPI2_NSS/TIM17_CH1, 47 VSS, 48 VDD, 59 PB7/I2C1_SDA/USART1_RX/TIM17_CH1N/USART4_CTS
text: MPU

## STM32f050
designator *
Микроконтроллер
footprint TSSOP20
pins: 1 BOOT0, 2 OSC_IN / PF0 , 3 OSC_OUT / PF1, 4 NRST, 5 VDDA, 6 PA0 / USART1_CTS / ADC_IN0 / TIM2_CH1_ETR/WKUP1/RTC_TAMP2, 7 PA1/TIM2_CH2/EVENTOUT/USART1_RTC/ADC_IN1, 8 PA2/TIM2_CH3/USART1_TX/ADC_IN2, 9 PA3/TIM2_CH4/USART1_RX/ADC_IN3, 10 PA4/SPI1_NSS/I2S1_WS/TIM14_CH1/USART1_CK/ADC_IN4, 11 PA5/SPI1_SCK/I2S1_CK/TIM2_CH1_ETR/ADC_IN5, 12 PA6/SPI1_MISO/I2S1_MCK/TIM3_CH1/TIM1_BKIN/TIM16_CH1/EVENTOUT/ADC_IN6, 13 PA7/SPI1_MOSI/I2S1_SD/TIM3_CH2/TIM14_CH1/TIM1_CH1N/TIM17_CH1/EVENTOUT/ADC_IN7, 14 PB1/TIM3_CH4/TIM14_CH1/TIM_CH3N/ADC_IN9, 15 VSS/GND, 16 VDD, 17 PA9 /USART1_TX/TIM1_CH2/I2C1_SCL, 18 PA10/USART1_RX/TIM1_CH3/TIM17_BKIN/I2C1_SDA, 19 PA13/IR_OUT/SWDAT, 20 PA14/SWCLK/USART1_TX
text: MCU

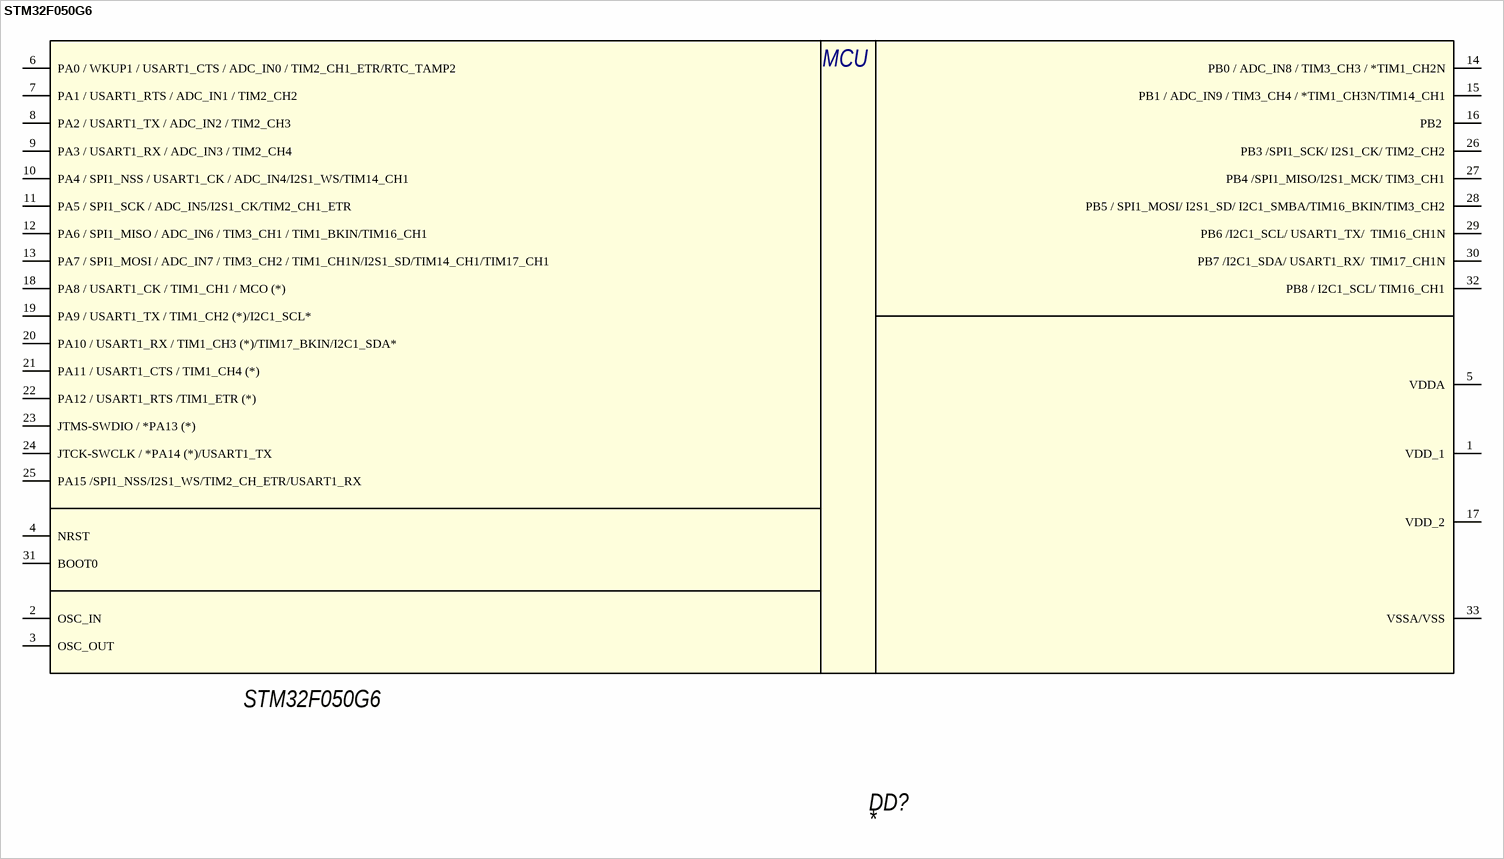
[diagram p17: symbol STM32F050G6]

## STM32F050G6
designator DD?  Name: STM32F050G6
Микроконтроллер
footprint UFQFPN 32
pins: 1 VDD_1, 2 OSC_IN, 3 OSC_OUT, 4 NRST, 5 VDDA, 6 PA0 / WKUP1 / USART1_CTS / ADC_IN0 / TIM2_CH1_ETR/RTC_TAMP2, 7 PA1 / USART1_RTS / ADC_IN1 / TIM2_CH2, 8 PA2 / USART1_TX / ADC_IN2 / TIM2_CH3, 9 PA3 / USART1_RX / ADC_IN3 / TIM2_CH4, 10 PA4 / SPI1_NSS / USART1_CK / ADC_IN4/I2S1_WS/TIM14_CH1, 11 PA5 / SPI1_SCK / ADC_IN5/I2S1_CK/TIM2_CH1_ETR, 12 PA6 / SPI1_MISO / ADC_IN6 / TIM3_CH1 / TIM1_BKIN/TIM16_CH1, 13 PA7 / SPI1_MOSI / ADC_IN7 / TIM3_CH2 / TIM1_CH1N/I2S1_SD/TIM14_CH1/TIM17_CH1, 14 PB0 / ADC_IN8 / TIM3_CH3 / *TIM1_CH2N, 15 PB1 / ADC_IN9 / TIM3_CH4 / *TIM1_CH3N/TIM14_CH1, 16 PB2 , 17 VDD_2, 18 PA8 / USART1_CK / TIM1_CH1 / MCO (*), 19 PA9 / USART1_TX / TIM1_CH2 (*)/I2C1_SCL*, 20 PA10 / USART1_RX / TIM1_CH3 (*)/TIM17_BKIN/I2C1_SDA*, 21 PA11 / USART1_CTS / TIM1_CH4 (*), 22 PA12 / USART1_RTS /TIM1_ETR (*), 23 JTMS-SWDIO / *PA13 (*), 24 JTCK-SWCLK / *PA14 (*)/USART1_TX, 25 PA15 /SPI1_NSS/I2S1_WS/TIM2_CH_ETR/USART1_RX , 26 PB3 /SPI1_SCK/ I2S1_CK/ TIM2_CH2, 27 PB4 /SPI1_MISO/I2S1_MCK/ TIM3_CH1, 28 PB5 / SPI1_MOSI/ I2S1_SD/ I2C1_SMBA/TIM16_BKIN/TIM3_CH2, 29 PB6 /I2C1_SCL/ USART1_TX/  TIM16_CH1N, 30 PB7 /I2C1_SDA/ USART1_RX/  TIM17_CH1N, 31 BOOT0, 32 PB8 / I2C1_SCL/ TIM16_CH1, 33 VSSA/VSS
text: MCU

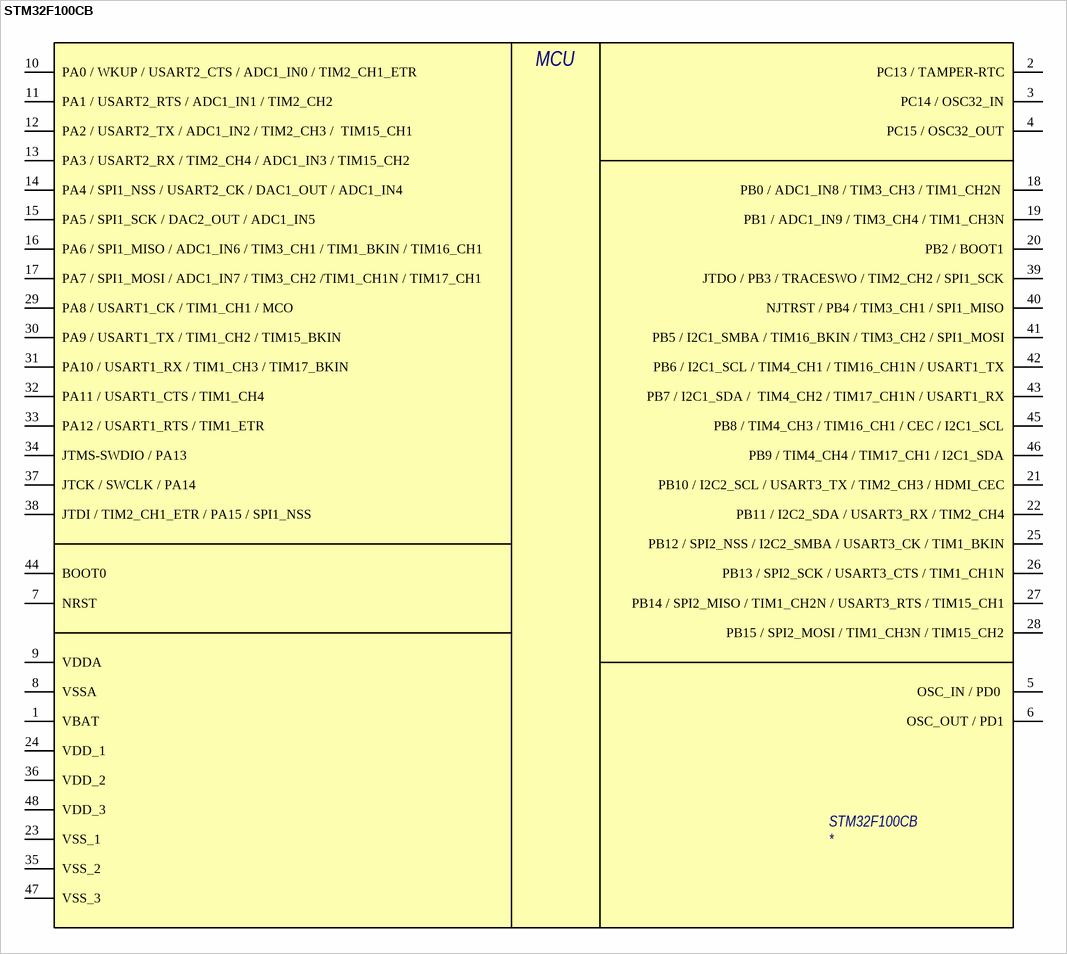
[diagram p18: symbol STM32F100CB]

## STM32F100CB
designator STM32F100CB
Микроконтроллер
footprint LQFP48_H
footprint LQFP48_L (Thin QFP, 48-Leads, Body 7x7mm, Pitch 0.5mm, IPC High Density)
pins: 1 VBAT, 2 PC13 / TAMPER-RTC, 3 PC14 / OSC32_IN, 4 PC15 / OSC32_OUT, 5 OSC_IN / PD0 , 6 OSC_OUT / PD1, 7 NRST, 8 VSSA, 9 VDDA, 10 PA0 / WKUP / USART2_CTS / ADC1_IN0 / TIM2_CH1_ETR , 11 PA1 / USART2_RTS / ADC1_IN1 / TIM2_CH2 , 12 PA2 / USART2_TX / ADC1_IN2 / TIM2_CH3 /  TIM15_CH1, 13 PA3 / USART2_RX / TIM2_CH4 / ADC1_IN3 / TIM15_CH2, 14 PA4 / SPI1_NSS / USART2_CK / DAC1_OUT / ADC1_IN4, 15 PA5 / SPI1_SCK / DAC2_OUT / ADC1_IN5, 16 PA6 / SPI1_MISO / ADC1_IN6 / TIM3_CH1 / TIM1_BKIN / TIM16_CH1, 17 PA7 / SPI1_MOSI / ADC1_IN7 / TIM3_CH2 /TIM1_CH1N / TIM17_CH1, 18 PB0 / ADC1_IN8 / TIM3_CH3 / TIM1_CH2N , 19 PB1 / ADC1_IN9 / TIM3_CH4 / TIM1_CH3N, 20 PB2 / BOOT1, 21 PB10 / I2C2_SCL / USART3_TX / TIM2_CH3 / HDMI_CEC, 22 PB11 / I2C2_SDA / USART3_RX / TIM2_CH4, 23 VSS_1, 24 VDD_1, 25 PB12 / SPI2_NSS / I2C2_SMBA / USART3_CK / TIM1_BKIN, 26 PB13 / SPI2_SCK / USART3_CTS / TIM1_CH1N, 27 PB14 / SPI2_MISO / TIM1_CH2N / USART3_RTS / TIM15_CH1, 28 PB15 / SPI2_MOSI / TIM1_CH3N / TIM15_CH2, 29 PA8 / USART1_CK / TIM1_CH1 / MCO, 30 PA9 / USART1_TX / TIM1_CH2 / TIM15_BKIN, 31 PA10 / USART1_RX / TIM1_CH3 / TIM17_BKIN, 32 PA11 / USART1_CTS / TIM1_CH4, 33 PA12 / USART1_RTS / TIM1_ETR, 34 JTMS-SWDIO / PA13, 35 VSS_2, 36 VDD_2, 37 JTCK / SWCLK / PA14, 38 JTDI / TIM2_CH1_ETR / PA15 / SPI1_NSS, 39 JTDO / PB3 / TRACESWO / TIM2_CH2 / SPI1_SCK, 40 NJTRST / PB4 / TIM3_CH1 / SPI1_MISO, 41 PB5 / I2C1_SMBA / TIM16_BKIN / TIM3_CH2 / SPI1_MOSI, 42 PB6 / I2C1_SCL / TIM4_CH1 / TIM16_CH1N / USART1_TX, 43 PB7 / I2C1_SDA /  TIM4_CH2 / TIM17_CH1N / USART1_RX, 44 BOOT0, 45 PB8 / TIM4_CH3 / TIM16_CH1 / CEC / I2C1_SCL, 46 PB9 / TIM4_CH4 / TIM17_CH1 / I2C1_SDA, 47 VSS_3, 48 VDD_3
text: MCU

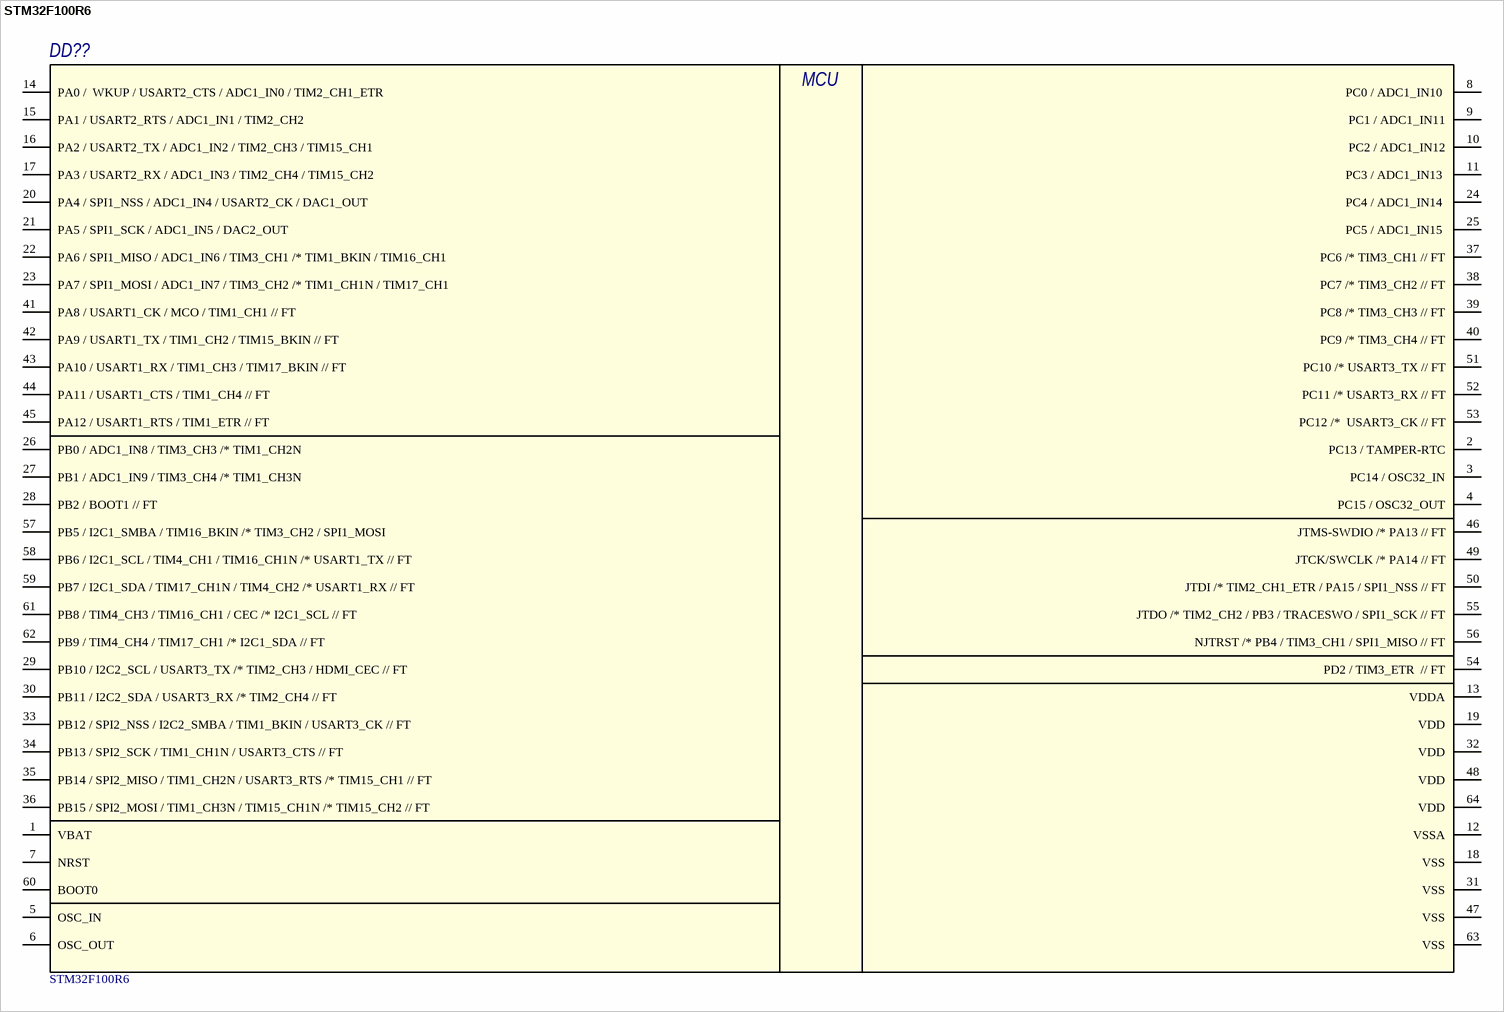
[diagram p19: symbol STM32F100R6]

## STM32F100R6
designator DD??
Микроконтроллер
footprint LQFP64_L (TSQFP, 64-Leads, Body 10,00x10,00mm, Pitch 0,50mm, IPC Medium Density)
footprint LQFP64_H (64-Pin Low Profile Quad Pack 0.5 mm Pitch, IPC High Density)
pins: 1 VBAT, 2 PC13 / TAMPER-RTC, 3 PC14 / OSC32_IN, 4 PC15 / OSC32_OUT, 5 OSC_IN, 6 OSC_OUT, 7 NRST, 8 PC0 / ADC1_IN10 , 9 PC1 / ADC1_IN11, 10 PC2 / ADC1_IN12, 11 PC3 / ADC1_IN13 , 12 VSSA, 13 VDDA, 14 PA0 /  WKUP / USART2_CTS / ADC1_IN0 / TIM2_CH1_ETR, 15 PA1 / USART2_RTS / ADC1_IN1 / TIM2_CH2, 16 PA2 / USART2_TX / ADC1_IN2 / TIM2_CH3 / TIM15_CH1, 17 PA3 / USART2_RX / ADC1_IN3 / TIM2_CH4 / TIM15_CH2, 18 VSS, 19 VDD, 20 PA4 / SPI1_NSS / ADC1_IN4 / USART2_CK / DAC1_OUT, 21 PA5 / SPI1_SCK / ADC1_IN5 / DAC2_OUT, 22 PA6 / SPI1_MISO / ADC1_IN6 / TIM3_CH1 /* TIM1_BKIN / TIM16_CH1, 23 PA7 / SPI1_MOSI / ADC1_IN7 / TIM3_CH2 /* TIM1_CH1N / TIM17_CH1, 24 PC4 / ADC1_IN14 , 25 PC5 / ADC1_IN15 , 26 PB0 / ADC1_IN8 / TIM3_CH3 /* TIM1_CH2N, 27 PB1 / ADC1_IN9 / TIM3_CH4 /* TIM1_CH3N, 28 PB2 / BOOT1 // FT, 29 PB10 / I2C2_SCL / USART3_TX /* TIM2_CH3 / HDMI_CEC // FT, 30 PB11 / I2C2_SDA / USART3_RX /* TIM2_CH4 // FT, 31 VSS, 32 VDD, 33 PB12 / SPI2_NSS / I2C2_SMBA / TIM1_BKIN / USART3_CK // FT, 34 PB13 / SPI2_SCK / TIM1_CH1N / USART3_CTS // FT, 35 PB14 / SPI2_MISO / TIM1_CH2N / USART3_RTS /* TIM15_CH1 // FT, 36 PB15 / SPI2_MOSI / TIM1_CH3N / TIM15_CH1N /* TIM15_CH2 // FT, 37 PC6 /* TIM3_CH1 // FT, 38 PC7 /* TIM3_CH2 // FT, 39 PC8 /* TIM3_CH3 // FT, 40 PC9 /* TIM3_CH4 // FT, 41 PA8 / USART1_CK / MCO / TIM1_CH1 // FT, 42 PA9 / USART1_TX / TIM1_CH2 / TIM15_BKIN // FT, 43 PA10 / USART1_RX / TIM1_CH3 / TIM17_BKIN // FT, 44 PA11 / USART1_CTS / TIM1_CH4 // FT, 45 PA12 / USART1_RTS / TIM1_ETR // FT, 46 JTMS-SWDIO /* PA13 // FT, 47 VSS, 48 VDD, 49 JTCK/SWCLK /* PA14 // FT, 50 JTDI /* TIM2_CH1_ETR / PA15 / SPI1_NSS // FT, 51 PC10 /* USART3_TX // FT, 52 PC11 /* USART3_RX // FT, 53 PC12 /*  USART3_CK // FT, 54 PD2 / TIM3_ETR  // FT, 55 JTDO /* TIM2_CH2 / PB3 / TRACESWO / SPI1_SCK // FT, 56 NJTRST /* PB4 / TIM3_CH1 / SPI1_MISO // FT, 57 PB5 / I2C1_SMBA / TIM16_BKIN /* TIM3_CH2 / SPI1_MOSI, 58 PB6 / I2C1_SCL / TIM4_CH1 / TIM16_CH1N /* USART1_TX // FT, 59 PB7 / I2C1_SDA / TIM17_CH1N / TIM4_CH2 /* USART1_RX // FT, 60 BOOT0, 61 PB8 / TIM4_CH3 / TIM16_CH1 / CEC /* I2C1_SCL // FT, 62 PB9 / TIM4_CH4 / TIM17_CH1 /* I2C1_SDA // FT, 63 VSS, 64 VDD
text: MCU

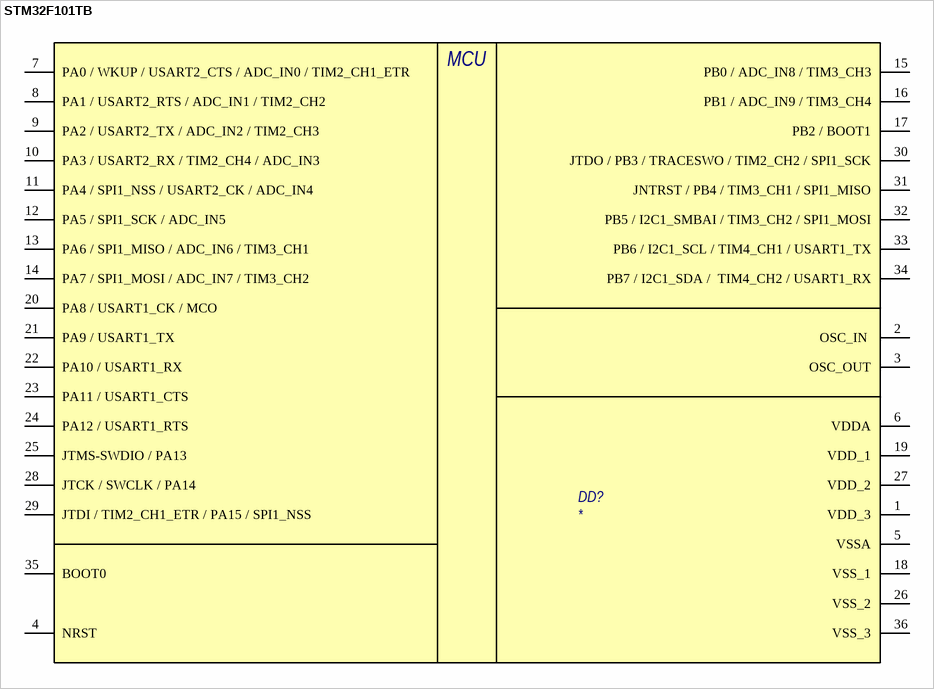
[diagram p20: symbol STM32F101TB]

## STM32F101TB
designator DD?
Микроконтроллер
footprint VFQFPN36_H
footprint VFQFPN36_A
pins: 1 VDD_3, 2 OSC_IN , 3 OSC_OUT, 4 NRST, 5 VSSA, 6 VDDA, 7 PA0 / WKUP / USART2_CTS / ADC_IN0 / TIM2_CH1_ETR , 8 PA1 / USART2_RTS / ADC_IN1 / TIM2_CH2 , 9 PA2 / USART2_TX / ADC_IN2 / TIM2_CH3, 10 PA3 / USART2_RX / TIM2_CH4 / ADC_IN3, 11 PA4 / SPI1_NSS / USART2_CK / ADC_IN4, 12 PA5 / SPI1_SCK / ADC_IN5, 13 PA6 / SPI1_MISO / ADC_IN6 / TIM3_CH1, 14 PA7 / SPI1_MOSI / ADC_IN7 / TIM3_CH2, 15 PB0 / ADC_IN8 / TIM3_CH3, 16 PB1 / ADC_IN9 / TIM3_CH4, 17 PB2 / BOOT1, 18 VSS_1, 19 VDD_1, 20 PA8 / USART1_CK / MCO, 21 PA9 / USART1_TX, 22 PA10 / USART1_RX, 23 PA11 / USART1_CTS, 24 PA12 / USART1_RTS, 25 JTMS-SWDIO / PA13, 26 VSS_2, 27 VDD_2, 28 JTCK / SWCLK / PA14, 29 JTDI / TIM2_CH1_ETR / PA15 / SPI1_NSS, 30 JTDO / PB3 / TRACESWO / TIM2_CH2 / SPI1_SCK, 31 JNTRST / PB4 / TIM3_CH1 / SPI1_MISO, 32 PB5 / I2C1_SMBAI / TIM3_CH2 / SPI1_MOSI, 33 PB6 / I2C1_SCL / TIM4_CH1 / USART1_TX, 34 PB7 / I2C1_SDA /  TIM4_CH2 / USART1_RX, 35 BOOT0, 36 VSS_3
text: MCU

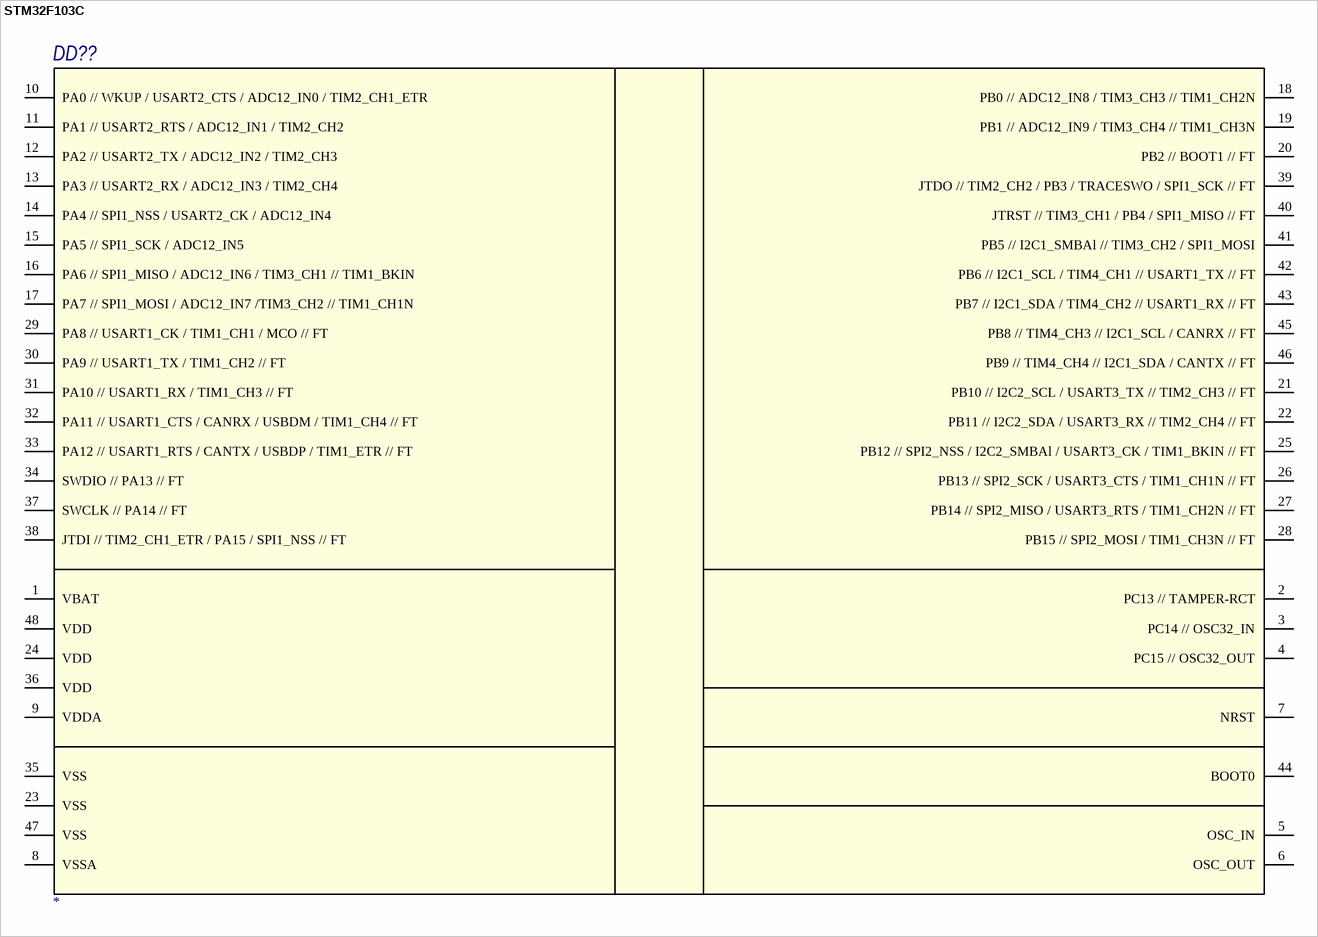
[diagram p21: symbol STM32F103C]

## STM32F103C
designator DD??
Микроконтроллер; Name: *
footprint LQFP48_H
footprint LQFP48_L (Thin QFP, 48-Leads, Body 7x7mm, Pitch 0.5mm, IPC High Density)
pins: 1 VBAT, 2 PC13 // TAMPER-RCT, 3 PC14 // OSC32_IN, 4 PC15 // OSC32_OUT, 5 OSC_IN, 6 OSC_OUT, 7 NRST, 8 VSSA, 9 VDDA, 10 PA0 // WKUP / USART2_CTS / ADC12_IN0 / TIM2_CH1_ETR, 11 PA1 // USART2_RTS / ADC12_IN1 / TIM2_CH2, 12 PA2 // USART2_TX / ADC12_IN2 / TIM2_CH3, 13 PA3 // USART2_RX / ADC12_IN3 / TIM2_CH4, 14 PA4 // SPI1_NSS / USART2_CK / ADC12_IN4, 15 PA5 // SPI1_SCK / ADC12_IN5, 16 PA6 // SPI1_MISO / ADC12_IN6 / TIM3_CH1 // TIM1_BKIN , 17 PA7 // SPI1_MOSI / ADC12_IN7 /TIM3_CH2 // TIM1_CH1N, 18 PB0 // ADC12_IN8 / TIM3_CH3 // TIM1_CH2N, 19 PB1 // ADC12_IN9 / TIM3_CH4 // TIM1_CH3N, 20 PB2 // BOOT1 // FT, 21 PB10 // I2C2_SCL / USART3_TX // TIM2_CH3 // FT, 22 PB11 // I2C2_SDA / USART3_RX // TIM2_CH4 // FT, 23 VSS, 24 VDD, 25 PB12 // SPI2_NSS / I2C2_SMBAl / USART3_CK / TIM1_BKIN // FT, 26 PB13 // SPI2_SCK / USART3_CTS / TIM1_CH1N // FT, 27 PB14 // SPI2_MISO / USART3_RTS / TIM1_CH2N // FT, 28 PB15 // SPI2_MOSI / TIM1_CH3N // FT, 29 PA8 // USART1_CK / TIM1_CH1 / MCO // FT, 30 PA9 // USART1_TX / TIM1_CH2 // FT, 31 PA10 // USART1_RX / TIM1_CH3 // FT, 32 PA11 // USART1_CTS / CANRX / USBDM / TIM1_CH4 // FT, 33 PA12 // USART1_RTS / CANTX / USBDP / TIM1_ETR // FT, 34 SWDIO // PA13 // FT, 35 VSS, 36 VDD, 37 SWCLK // PA14 // FT, 38 JTDI // TIM2_CH1_ETR / PA15 / SPI1_NSS // FT, 39 JTDO // TIM2_CH2 / PB3 / TRACESWO / SPI1_SCK // FT, 40 JTRST // TIM3_CH1 / PB4 / SPI1_MISO // FT, 41 PB5 // I2C1_SMBAl // TIM3_CH2 / SPI1_MOSI, 42 PB6 // I2C1_SCL / TIM4_CH1 // USART1_TX // FT, 43 PB7 // I2C1_SDA / TIM4_CH2 // USART1_RX // FT, 44 BOOT0, 45 PB8 // TIM4_CH3 // I2C1_SCL / CANRX // FT, 46 PB9 // TIM4_CH4 // I2C1_SDA / CANTX // FT, 47 VSS, 48 VDD

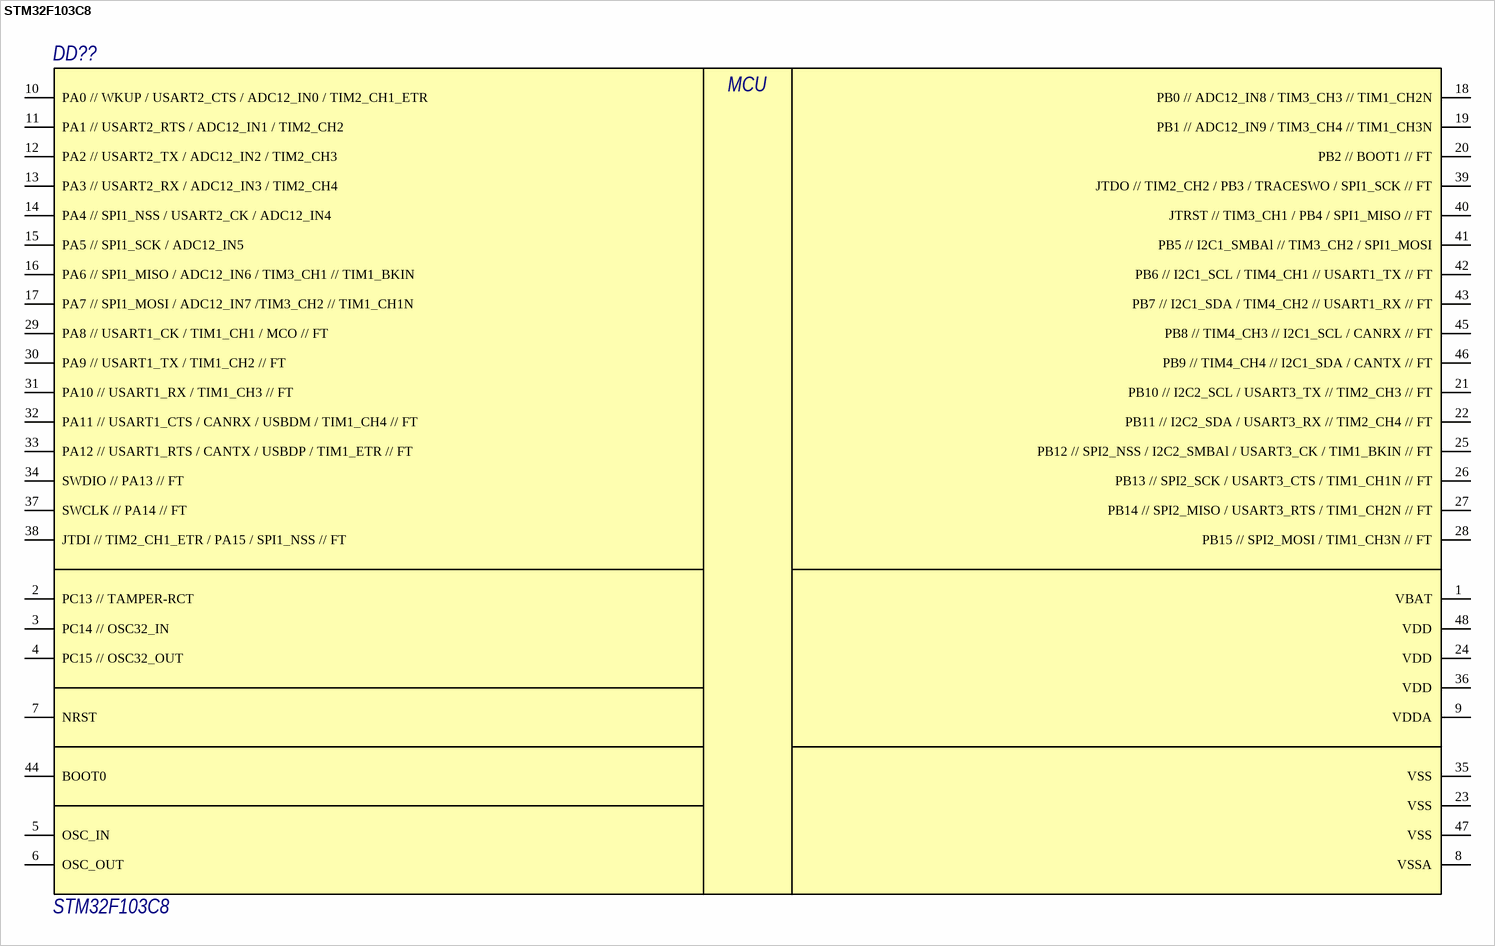
[diagram p22: symbol STM32F103C8]

## STM32F103C8
designator DD??
Микроконтроллер; Name: STM32F103C8
footprint LQFP48_H
footprint LQFP48_M (QFP, 48-Leads, Body 7x7mm, Pitch 0.5mm, IPC Low Density)
footprint LQFP48_L (Thin QFP, 48-Leads, Body 7x7mm, Pitch 0.5mm, IPC High Density)
pins: 1 VBAT, 2 PC13 // TAMPER-RCT, 3 PC14 // OSC32_IN, 4 PC15 // OSC32_OUT, 5 OSC_IN, 6 OSC_OUT, 7 NRST, 8 VSSA, 9 VDDA, 10 PA0 // WKUP / USART2_CTS / ADC12_IN0 / TIM2_CH1_ETR, 11 PA1 // USART2_RTS / ADC12_IN1 / TIM2_CH2, 12 PA2 // USART2_TX / ADC12_IN2 / TIM2_CH3, 13 PA3 // USART2_RX / ADC12_IN3 / TIM2_CH4, 14 PA4 // SPI1_NSS / USART2_CK / ADC12_IN4, 15 PA5 // SPI1_SCK / ADC12_IN5, 16 PA6 // SPI1_MISO / ADC12_IN6 / TIM3_CH1 // TIM1_BKIN , 17 PA7 // SPI1_MOSI / ADC12_IN7 /TIM3_CH2 // TIM1_CH1N, 18 PB0 // ADC12_IN8 / TIM3_CH3 // TIM1_CH2N, 19 PB1 // ADC12_IN9 / TIM3_CH4 // TIM1_CH3N, 20 PB2 // BOOT1 // FT, 21 PB10 // I2C2_SCL / USART3_TX // TIM2_CH3 // FT, 22 PB11 // I2C2_SDA / USART3_RX // TIM2_CH4 // FT, 23 VSS, 24 VDD, 25 PB12 // SPI2_NSS / I2C2_SMBAl / USART3_CK / TIM1_BKIN // FT, 26 PB13 // SPI2_SCK / USART3_CTS / TIM1_CH1N // FT, 27 PB14 // SPI2_MISO / USART3_RTS / TIM1_CH2N // FT, 28 PB15 // SPI2_MOSI / TIM1_CH3N // FT, 29 PA8 // USART1_CK / TIM1_CH1 / MCO // FT, 30 PA9 // USART1_TX / TIM1_CH2 // FT, 31 PA10 // USART1_RX / TIM1_CH3 // FT, 32 PA11 // USART1_CTS / CANRX / USBDM / TIM1_CH4 // FT, 33 PA12 // USART1_RTS / CANTX / USBDP / TIM1_ETR // FT, 34 SWDIO // PA13 // FT, 35 VSS, 36 VDD, 37 SWCLK // PA14 // FT, 38 JTDI // TIM2_CH1_ETR / PA15 / SPI1_NSS // FT, 39 JTDO // TIM2_CH2 / PB3 / TRACESWO / SPI1_SCK // FT, 40 JTRST // TIM3_CH1 / PB4 / SPI1_MISO // FT, 41 PB5 // I2C1_SMBAl // TIM3_CH2 / SPI1_MOSI, 42 PB6 // I2C1_SCL / TIM4_CH1 // USART1_TX // FT, 43 PB7 // I2C1_SDA / TIM4_CH2 // USART1_RX // FT, 44 BOOT0, 45 PB8 // TIM4_CH3 // I2C1_SCL / CANRX // FT, 46 PB9 // TIM4_CH4 // I2C1_SDA / CANTX // FT, 47 VSS, 48 VDD
text: MCU

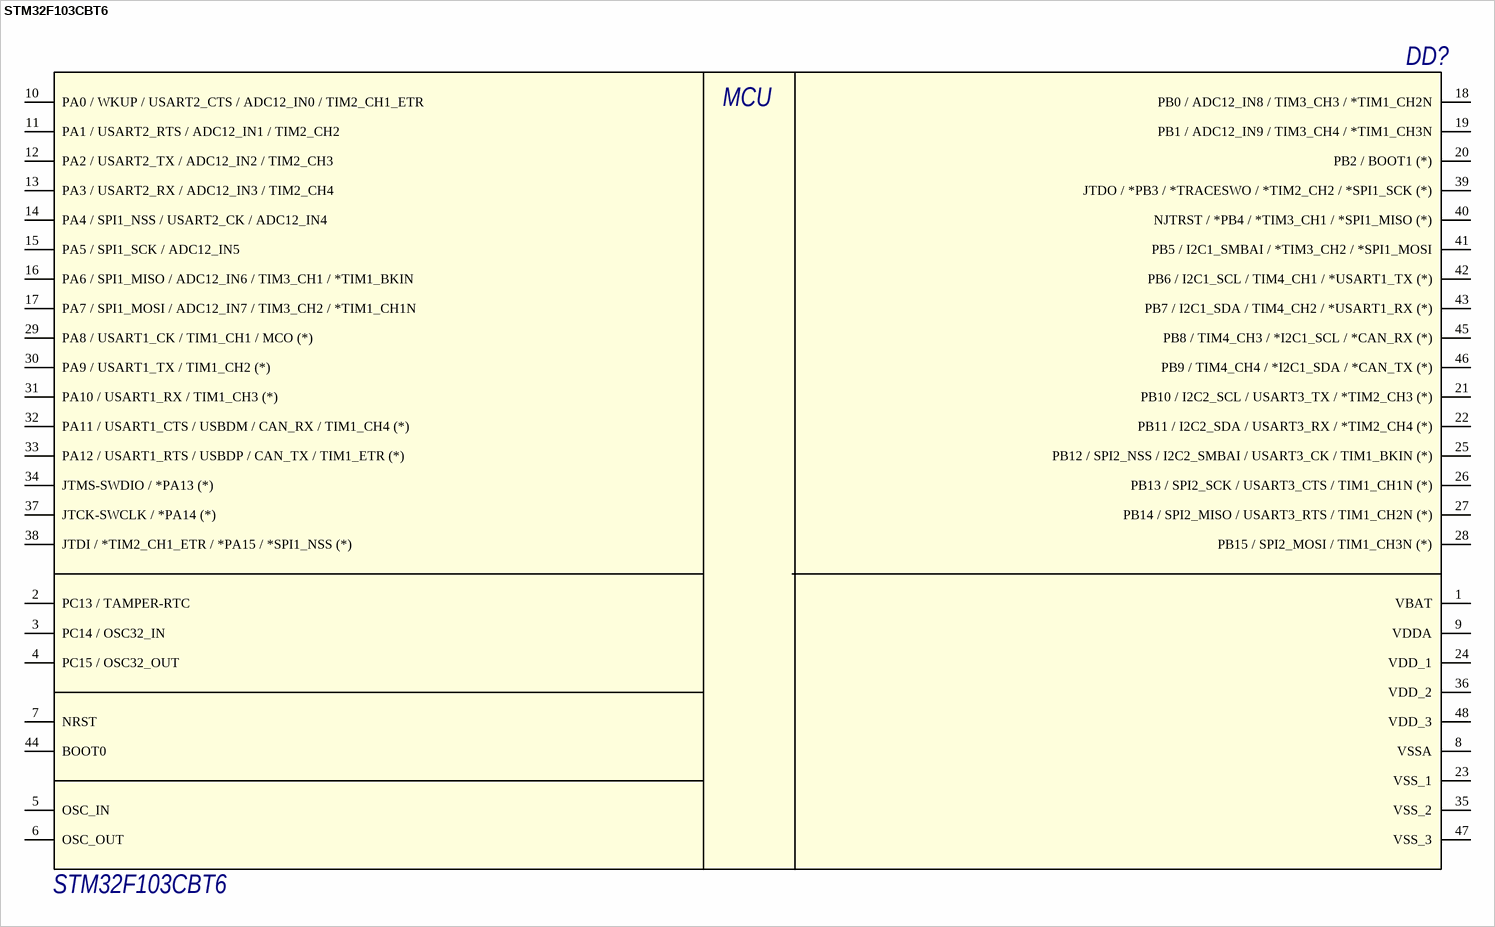
[diagram p23: symbol STM32F103CBT6]

## STM32F103CBT6
designator DD?
Микроконтроллер; Manufacture: STMicroelectronics; Package: LQFP48; Name: STM32F103CBT6
footprint LQFP48_M (QFP, 48-Leads, Body 7x7mm, Pitch 0.5mm, IPC Low Density)
footprint LQFP48_H
footprint LQFP48_L (Thin QFP, 48-Leads, Body 7x7mm, Pitch 0.5mm, IPC High Density)
pins: 1 VBAT, 2 PC13 / TAMPER-RTC, 3 PC14 / OSC32_IN, 4 PC15 / OSC32_OUT, 5 OSC_IN, 6 OSC_OUT, 7 NRST, 8 VSSA, 9 VDDA, 10 PA0 / WKUP / USART2_CTS / ADC12_IN0 / TIM2_CH1_ETR, 11 PA1 / USART2_RTS / ADC12_IN1 / TIM2_CH2, 12 PA2 / USART2_TX / ADC12_IN2 / TIM2_CH3, 13 PA3 / USART2_RX / ADC12_IN3 / TIM2_CH4, 14 PA4 / SPI1_NSS / USART2_CK / ADC12_IN4, 15 PA5 / SPI1_SCK / ADC12_IN5, 16 PA6 / SPI1_MISO / ADC12_IN6 / TIM3_CH1 / *TIM1_BKIN, 17 PA7 / SPI1_MOSI / ADC12_IN7 / TIM3_CH2 / *TIM1_CH1N, 18 PB0 / ADC12_IN8 / TIM3_CH3 / *TIM1_CH2N, 19 PB1 / ADC12_IN9 / TIM3_CH4 / *TIM1_CH3N, 20 PB2 / BOOT1 (*), 21 PB10 / I2C2_SCL / USART3_TX / *TIM2_CH3 (*), 22 PB11 / I2C2_SDA / USART3_RX / *TIM2_CH4 (*), 23 VSS_1, 24 VDD_1, 25 PB12 / SPI2_NSS / I2C2_SMBAI / USART3_CK / TIM1_BKIN (*), 26 PB13 / SPI2_SCK / USART3_CTS / TIM1_CH1N (*), 27 PB14 / SPI2_MISO / USART3_RTS / TIM1_CH2N (*), 28 PB15 / SPI2_MOSI / TIM1_CH3N (*), 29 PA8 / USART1_CK / TIM1_CH1 / MCO (*), 30 PA9 / USART1_TX / TIM1_CH2 (*), 31 PA10 / USART1_RX / TIM1_CH3 (*), 32 PA11 / USART1_CTS / USBDM / CAN_RX / TIM1_CH4 (*), 33 PA12 / USART1_RTS / USBDP / CAN_TX / TIM1_ETR (*), 34 JTMS-SWDIO / *PA13 (*), 35 VSS_2, 36 VDD_2, 37 JTCK-SWCLK / *PA14 (*), 38 JTDI / *TIM2_CH1_ETR / *PA15 / *SPI1_NSS (*), 39 JTDO / *PB3 / *TRACESWO / *TIM2_CH2 / *SPI1_SCK (*), 40 NJTRST / *PB4 / *TIM3_CH1 / *SPI1_MISO (*), 41 PB5 / I2C1_SMBAI / *TIM3_CH2 / *SPI1_MOSI, 42 PB6 / I2C1_SCL / TIM4_CH1 / *USART1_TX (*), 43 PB7 / I2C1_SDA / TIM4_CH2 / *USART1_RX (*), 44 BOOT0, 45 PB8 / TIM4_CH3 / *I2C1_SCL / *CAN_RX (*), 46 PB9 / TIM4_CH4 / *I2C1_SDA / *CAN_TX (*), 47 VSS_3, 48 VDD_3
text: MCU

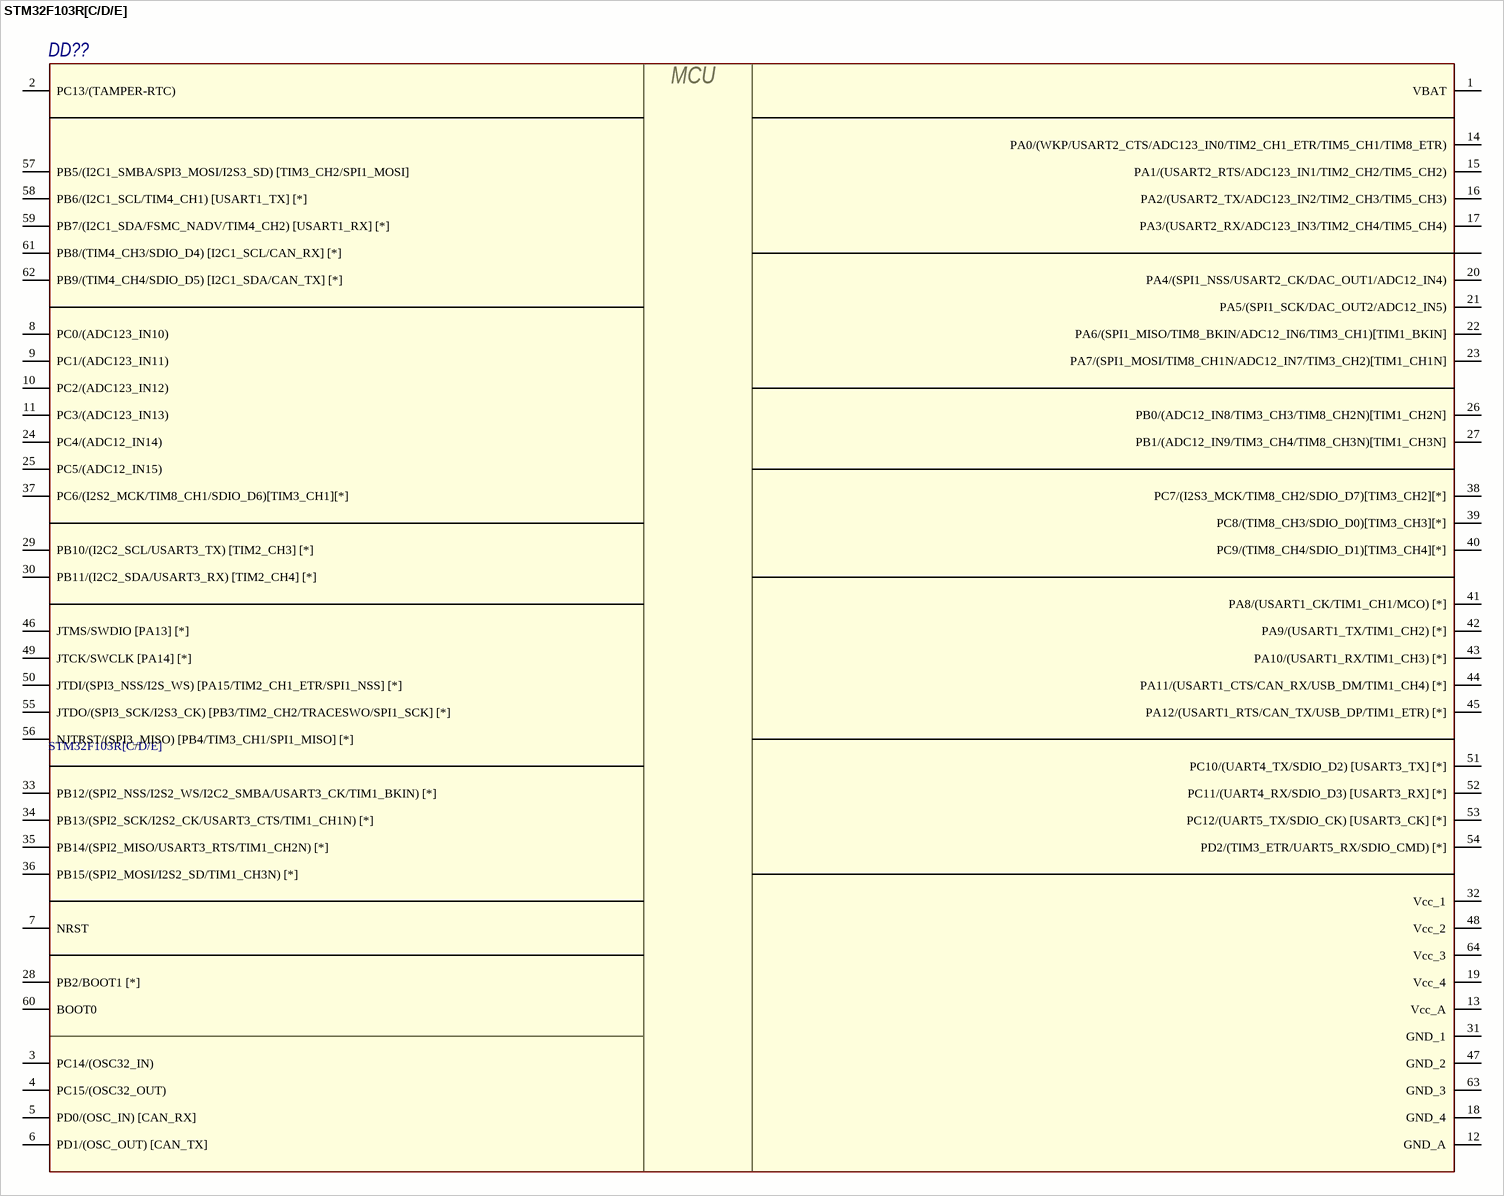
[diagram p24: symbol STM32F103R[C/D/E]]

## STM32F103R[C/D/E]
designator DD??
Микроконтроллер; Name: STM32F103R[C/D/E]
footprint LQFP64_H (64-Pin Low Profile Quad Pack 0.5 mm Pitch, IPC High Density)
footprint LQFP64_L (TSQFP, 64-Leads, Body 10,00x10,00mm, Pitch 0,50mm, IPC Medium Density)
pins: 1 VBAT, 2 PC13/(TAMPER-RTC), 3 PC14/(OSC32_IN), 4 PC15/(OSC32_OUT), 5 PD0/(OSC_IN) [CAN_RX], 6 PD1/(OSC_OUT) [CAN_TX], 7 NRST, 8 PC0/(ADC123_IN10), 9 PC1/(ADC123_IN11), 10 PC2/(ADC123_IN12), 11 PC3/(ADC123_IN13), 12 GND_A, 13 Vcc_A, 14 PA0/(WKP/USART2_CTS/ADC123_IN0/TIM2_CH1_ETR/TIM5_CH1/TIM8_ETR), 15 PA1/(USART2_RTS/ADC123_IN1/TIM2_CH2/TIM5_CH2), 16 PA2/(USART2_TX/ADC123_IN2/TIM2_CH3/TIM5_CH3), 17 PA3/(USART2_RX/ADC123_IN3/TIM2_CH4/TIM5_CH4), 18 GND_4, 19 Vcc_4, 20 PA4/(SPI1_NSS/USART2_CK/DAC_OUT1/ADC12_IN4), 21 PA5/(SPI1_SCK/DAC_OUT2/ADC12_IN5), 22 PA6/(SPI1_MISO/TIM8_BKIN/ADC12_IN6/TIM3_CH1)[TIM1_BKIN], 23 PA7/(SPI1_MOSI/TIM8_CH1N/ADC12_IN7/TIM3_CH2)[TIM1_CH1N], 24 PC4/(ADC12_IN14), 25 PC5/(ADC12_IN15), 26 PB0/(ADC12_IN8/TIM3_CH3/TIM8_CH2N)[TIM1_CH2N], 27 PB1/(ADC12_IN9/TIM3_CH4/TIM8_CH3N)[TIM1_CH3N], 28 PB2/BOOT1 [*], 29 PB10/(I2C2_SCL/USART3_TX) [TIM2_CH3] [*], 30 PB11/(I2C2_SDA/USART3_RX) [TIM2_CH4] [*], 31 GND_1, 32 Vcc_1, 33 PB12/(SPI2_NSS/I2S2_WS/I2C2_SMBA/USART3_CK/TIM1_BKIN) [*], 34 PB13/(SPI2_SCK/I2S2_CK/USART3_CTS/TIM1_CH1N) [*], 35 PB14/(SPI2_MISO/USART3_RTS/TIM1_CH2N) [*], 36 PB15/(SPI2_MOSI/I2S2_SD/TIM1_CH3N) [*], 37 PC6/(I2S2_MCK/TIM8_CH1/SDIO_D6)[TIM3_CH1][*], 38 PC7/(I2S3_MCK/TIM8_CH2/SDIO_D7)[TIM3_CH2][*], 39 PC8/(TIM8_CH3/SDIO_D0)[TIM3_CH3][*], 40 PC9/(TIM8_CH4/SDIO_D1)[TIM3_CH4][*], 41 PA8/(USART1_CK/TIM1_CH1/MCO) [*], 42 PA9/(USART1_TX/TIM1_CH2) [*], 43 PA10/(USART1_RX/TIM1_CH3) [*], 44 PA11/(USART1_CTS/CAN_RX/USB_DM/TIM1_CH4) [*], 45 PA12/(USART1_RTS/CAN_TX/USB_DP/TIM1_ETR) [*], 46 JTMS/SWDIO [PA13] [*], 47 GND_2, 48 Vcc_2, 49 JTCK/SWCLK [PA14] [*], 50 JTDI/(SPI3_NSS/I2S_WS) [PA15/TIM2_CH1_ETR/SPI1_NSS] [*], 51 PC10/(UART4_TX/SDIO_D2) [USART3_TX] [*], 52 PC11/(UART4_RX/SDIO_D3) [USART3_RX] [*], 53 PC12/(UART5_TX/SDIO_CK) [USART3_CK] [*], 54 PD2/(TIM3_ETR/UART5_RX/SDIO_CMD) [*], 55 JTDO/(SPI3_SCK/I2S3_CK) [PB3/TIM2_CH2/TRACESWO/SPI1_SCK] [*], 56 NJTRST/(SPI3_MISO) [PB4/TIM3_CH1/SPI1_MISO] [*], 57 PB5/(I2C1_SMBA/SPI3_MOSI/I2S3_SD) [TIM3_CH2/SPI1_MOSI], 58 PB6/(I2C1_SCL/TIM4_CH1) [USART1_TX] [*], 59 PB7/(I2C1_SDA/FSMC_NADV/TIM4_CH2) [USART1_RX] [*], 60 BOOT0, 61 PB8/(TIM4_CH3/SDIO_D4) [I2C1_SCL/CAN_RX] [*], 62 PB9/(TIM4_CH4/SDIO_D5) [I2C1_SDA/CAN_TX] [*], 63 GND_3, 64 Vcc_3
text: MCU

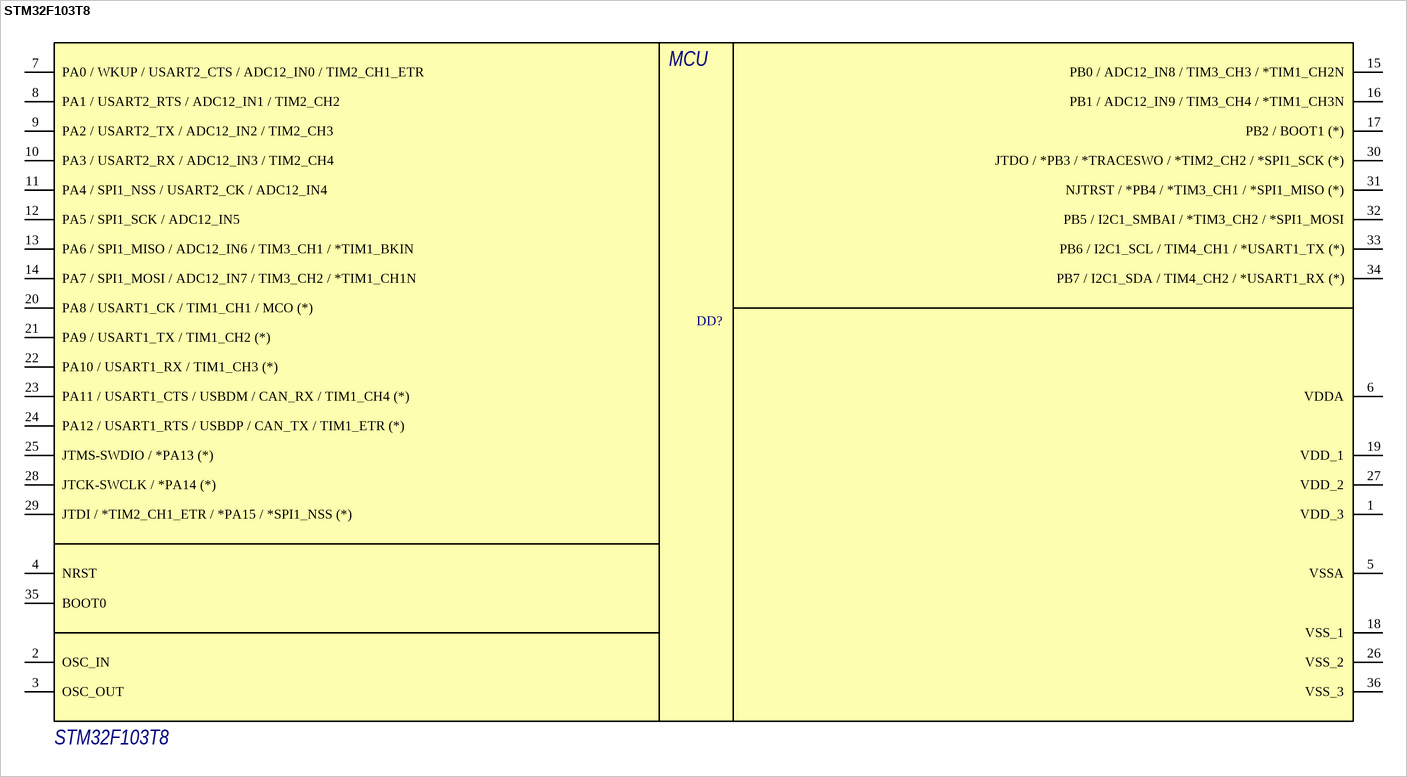
[diagram p25: symbol STM32F103T8]

## STM32F103T8
designator DD?
Микроконтроллер; Name: STM32F103T8
footprint VFQFPN36_A
footprint VFQFPN36_H
pins: 1 VDD_3, 2 OSC_IN, 3 OSC_OUT, 4 NRST, 5 VSSA, 6 VDDA, 7 PA0 / WKUP / USART2_CTS / ADC12_IN0 / TIM2_CH1_ETR, 8 PA1 / USART2_RTS / ADC12_IN1 / TIM2_CH2, 9 PA2 / USART2_TX / ADC12_IN2 / TIM2_CH3, 10 PA3 / USART2_RX / ADC12_IN3 / TIM2_CH4, 11 PA4 / SPI1_NSS / USART2_CK / ADC12_IN4, 12 PA5 / SPI1_SCK / ADC12_IN5, 13 PA6 / SPI1_MISO / ADC12_IN6 / TIM3_CH1 / *TIM1_BKIN, 14 PA7 / SPI1_MOSI / ADC12_IN7 / TIM3_CH2 / *TIM1_CH1N, 15 PB0 / ADC12_IN8 / TIM3_CH3 / *TIM1_CH2N, 16 PB1 / ADC12_IN9 / TIM3_CH4 / *TIM1_CH3N, 17 PB2 / BOOT1 (*), 18 VSS_1, 19 VDD_1, 20 PA8 / USART1_CK / TIM1_CH1 / MCO (*), 21 PA9 / USART1_TX / TIM1_CH2 (*), 22 PA10 / USART1_RX / TIM1_CH3 (*), 23 PA11 / USART1_CTS / USBDM / CAN_RX / TIM1_CH4 (*), 24 PA12 / USART1_RTS / USBDP / CAN_TX / TIM1_ETR (*), 25 JTMS-SWDIO / *PA13 (*), 26 VSS_2, 27 VDD_2, 28 JTCK-SWCLK / *PA14 (*), 29 JTDI / *TIM2_CH1_ETR / *PA15 / *SPI1_NSS (*), 30 JTDO / *PB3 / *TRACESWO / *TIM2_CH2 / *SPI1_SCK (*), 31 NJTRST / *PB4 / *TIM3_CH1 / *SPI1_MISO (*), 32 PB5 / I2C1_SMBAI / *TIM3_CH2 / *SPI1_MOSI, 33 PB6 / I2C1_SCL / TIM4_CH1 / *USART1_TX (*), 34 PB7 / I2C1_SDA / TIM4_CH2 / *USART1_RX (*), 35 BOOT0, 36 VSS_3
text: MCU

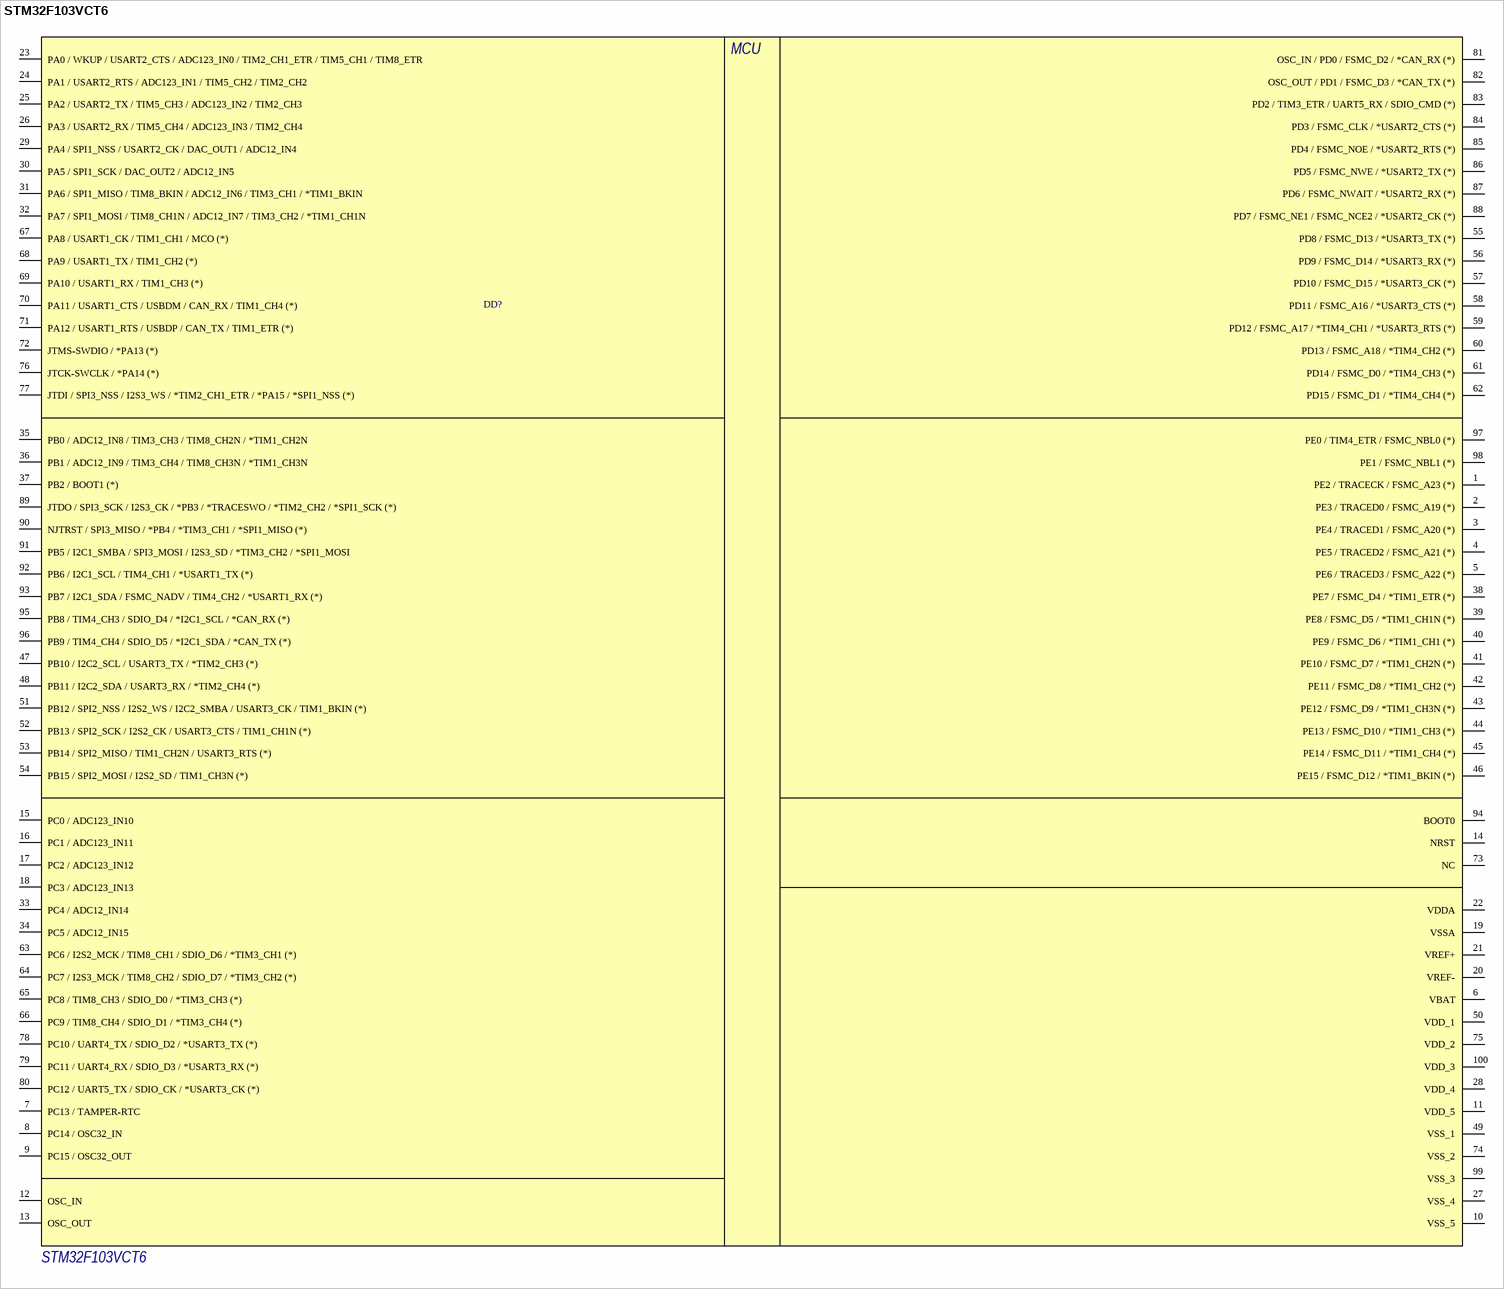
[diagram p26: symbol STM32F103VCT6]

## STM32F103VCT6
designator DD?
Микроконтроллер; Name: STM32F103VCT6
footprint LQPF100_A
footprint LQPF100_H
pins: 1 PE2 / TRACECK / FSMC_A23 (*), 2 PE3 / TRACED0 / FSMC_A19 (*), 3 PE4 / TRACED1 / FSMC_A20 (*), 4 PE5 / TRACED2 / FSMC_A21 (*), 5 PE6 / TRACED3 / FSMC_A22 (*), 6 VBAT, 7 PC13 / TAMPER-RTC, 8 PC14 / OSC32_IN, 9 PC15 / OSC32_OUT, 10 VSS_5, 11 VDD_5, 12 OSC_IN, 13 OSC_OUT, 14 NRST, 15 PC0 / ADC123_IN10, 16 PC1 / ADC123_IN11, 17 PC2 / ADC123_IN12, 18 PC3 / ADC123_IN13, 19 VSSA, 20 VREF-, 21 VREF+, 22 VDDA, 23 PA0 / WKUP / USART2_CTS / ADC123_IN0 / TIM2_CH1_ETR / TIM5_CH1 / TIM8_ETR, 24 PA1 / USART2_RTS / ADC123_IN1 / TIM5_CH2 / TIM2_CH2, 25 PA2 / USART2_TX / TIM5_CH3 / ADC123_IN2 / TIM2_CH3, 26 PA3 / USART2_RX / TIM5_CH4 / ADC123_IN3 / TIM2_CH4, 27 VSS_4, 28 VDD_4, 29 PA4 / SPI1_NSS / USART2_CK / DAC_OUT1 / ADC12_IN4, 30 PA5 / SPI1_SCK / DAC_OUT2 / ADC12_IN5, 31 PA6 / SPI1_MISO / TIM8_BKIN / ADC12_IN6 / TIM3_CH1 / *TIM1_BKIN, 32 PA7 / SPI1_MOSI / TIM8_CH1N / ADC12_IN7 / TIM3_CH2 / *TIM1_CH1N, 33 PC4 / ADC12_IN14, 34 PC5 / ADC12_IN15, 35 PB0 / ADC12_IN8 / TIM3_CH3 / TIM8_CH2N / *TIM1_CH2N, 36 PB1 / ADC12_IN9 / TIM3_CH4 / TIM8_CH3N / *TIM1_CH3N, 37 PB2 / BOOT1 (*), 38 PE7 / FSMC_D4 / *TIM1_ETR (*), 39 PE8 / FSMC_D5 / *TIM1_CH1N (*), 40 PE9 / FSMC_D6 / *TIM1_CH1 (*), 41 PE10 / FSMC_D7 / *TIM1_CH2N (*), 42 PE11 / FSMC_D8 / *TIM1_CH2 (*), 43 PE12 / FSMC_D9 / *TIM1_CH3N (*), 44 PE13 / FSMC_D10 / *TIM1_CH3 (*), 45 PE14 / FSMC_D11 / *TIM1_CH4 (*), 46 PE15 / FSMC_D12 / *TIM1_BKIN (*), 47 PB10 / I2C2_SCL / USART3_TX / *TIM2_CH3 (*), 48 PB11 / I2C2_SDA / USART3_RX / *TIM2_CH4 (*), 49 VSS_1, 50 VDD_1, 51 PB12 / SPI2_NSS / I2S2_WS / I2C2_SMBA / USART3_CK / TIM1_BKIN (*), 52 PB13 / SPI2_SCK / I2S2_CK / USART3_CTS / TIM1_CH1N (*), 53 PB14 / SPI2_MISO / TIM1_CH2N / USART3_RTS (*), 54 PB15 / SPI2_MOSI / I2S2_SD / TIM1_CH3N (*), 55 PD8 / FSMC_D13 / *USART3_TX (*), 56 PD9 / FSMC_D14 / *USART3_RX (*), 57 PD10 / FSMC_D15 / *USART3_CK (*), 58 PD11 / FSMC_A16 / *USART3_CTS (*), 59 PD12 / FSMC_A17 / *TIM4_CH1 / *USART3_RTS (*), 60 PD13 / FSMC_A18 / *TIM4_CH2 (*), 61 PD14 / FSMC_D0 / *TIM4_CH3 (*), 62 PD15 / FSMC_D1 / *TIM4_CH4 (*), 63 PC6 / I2S2_MCK / TIM8_CH1 / SDIO_D6 / *TIM3_CH1 (*), 64 PC7 / I2S3_MCK / TIM8_CH2 / SDIO_D7 / *TIM3_CH2 (*), 65 PC8 / TIM8_CH3 / SDIO_D0 / *TIM3_CH3 (*), 66 PC9 / TIM8_CH4 / SDIO_D1 / *TIM3_CH4 (*), 67 PA8 / USART1_CK / TIM1_CH1 / MCO (*), 68 PA9 / USART1_TX / TIM1_CH2 (*), 69 PA10 / USART1_RX / TIM1_CH3 (*), 70 PA11 / USART1_CTS / USBDM / CAN_RX / TIM1_CH4 (*), 71 PA12 / USART1_RTS / USBDP / CAN_TX / TIM1_ETR (*), 72 JTMS-SWDIO / *PA13 (*), 73 NC, 74 VSS_2, 75 VDD_2, 76 JTCK-SWCLK / *PA14 (*), 77 JTDI / SPI3_NSS / I2S3_WS / *TIM2_CH1_ETR / *PA15 / *SPI1_NSS (*), 78 PC10 / UART4_TX / SDIO_D2 / *USART3_TX (*), 79 PC11 / UART4_RX / SDIO_D3 / *USART3_RX (*), 80 PC12 / UART5_TX / SDIO_CK / *USART3_CK (*), 81 OSC_IN / PD0 / FSMC_D2 / *CAN_RX (*), 82 OSC_OUT / PD1 / FSMC_D3 / *CAN_TX (*), 83 PD2 / TIM3_ETR / UART5_RX / SDIO_CMD (*), 84 PD3 / FSMC_CLK / *USART2_CTS (*), 85 PD4 / FSMC_NOE / *USART2_RTS (*), 86 PD5 / FSMC_NWE / *USART2_TX (*), 87 PD6 / FSMC_NWAIT / *USART2_RX (*), 88 PD7 / FSMC_NE1 / FSMC_NCE2 / *USART2_CK (*), 89 JTDO / SPI3_SCK / I2S3_CK / *PB3 / *TRACESWO / *TIM2_CH2 / *SPI1_SCK (*), 90 NJTRST / SPI3_MISO / *PB4 / *TIM3_CH1 / *SPI1_MISO (*), 91 PB5 / I2C1_SMBA / SPI3_MOSI / I2S3_SD / *TIM3_CH2 / *SPI1_MOSI, 92 PB6 / I2C1_SCL / TIM4_CH1 / *USART1_TX (*), 93 PB7 / I2C1_SDA / FSMC_NADV / TIM4_CH2 / *USART1_RX (*), 94 BOOT0, 95 PB8 / TIM4_CH3 / SDIO_D4 / *I2C1_SCL / *CAN_RX (*), 96 PB9 / TIM4_CH4 / SDIO_D5 / *I2C1_SDA / *CAN_TX (*), 97 PE0 / TIM4_ETR / FSMC_NBL0 (*), 98 PE1 / FSMC_NBL1 (*), 99 VSS_3, 100 VDD_3
text: MCU

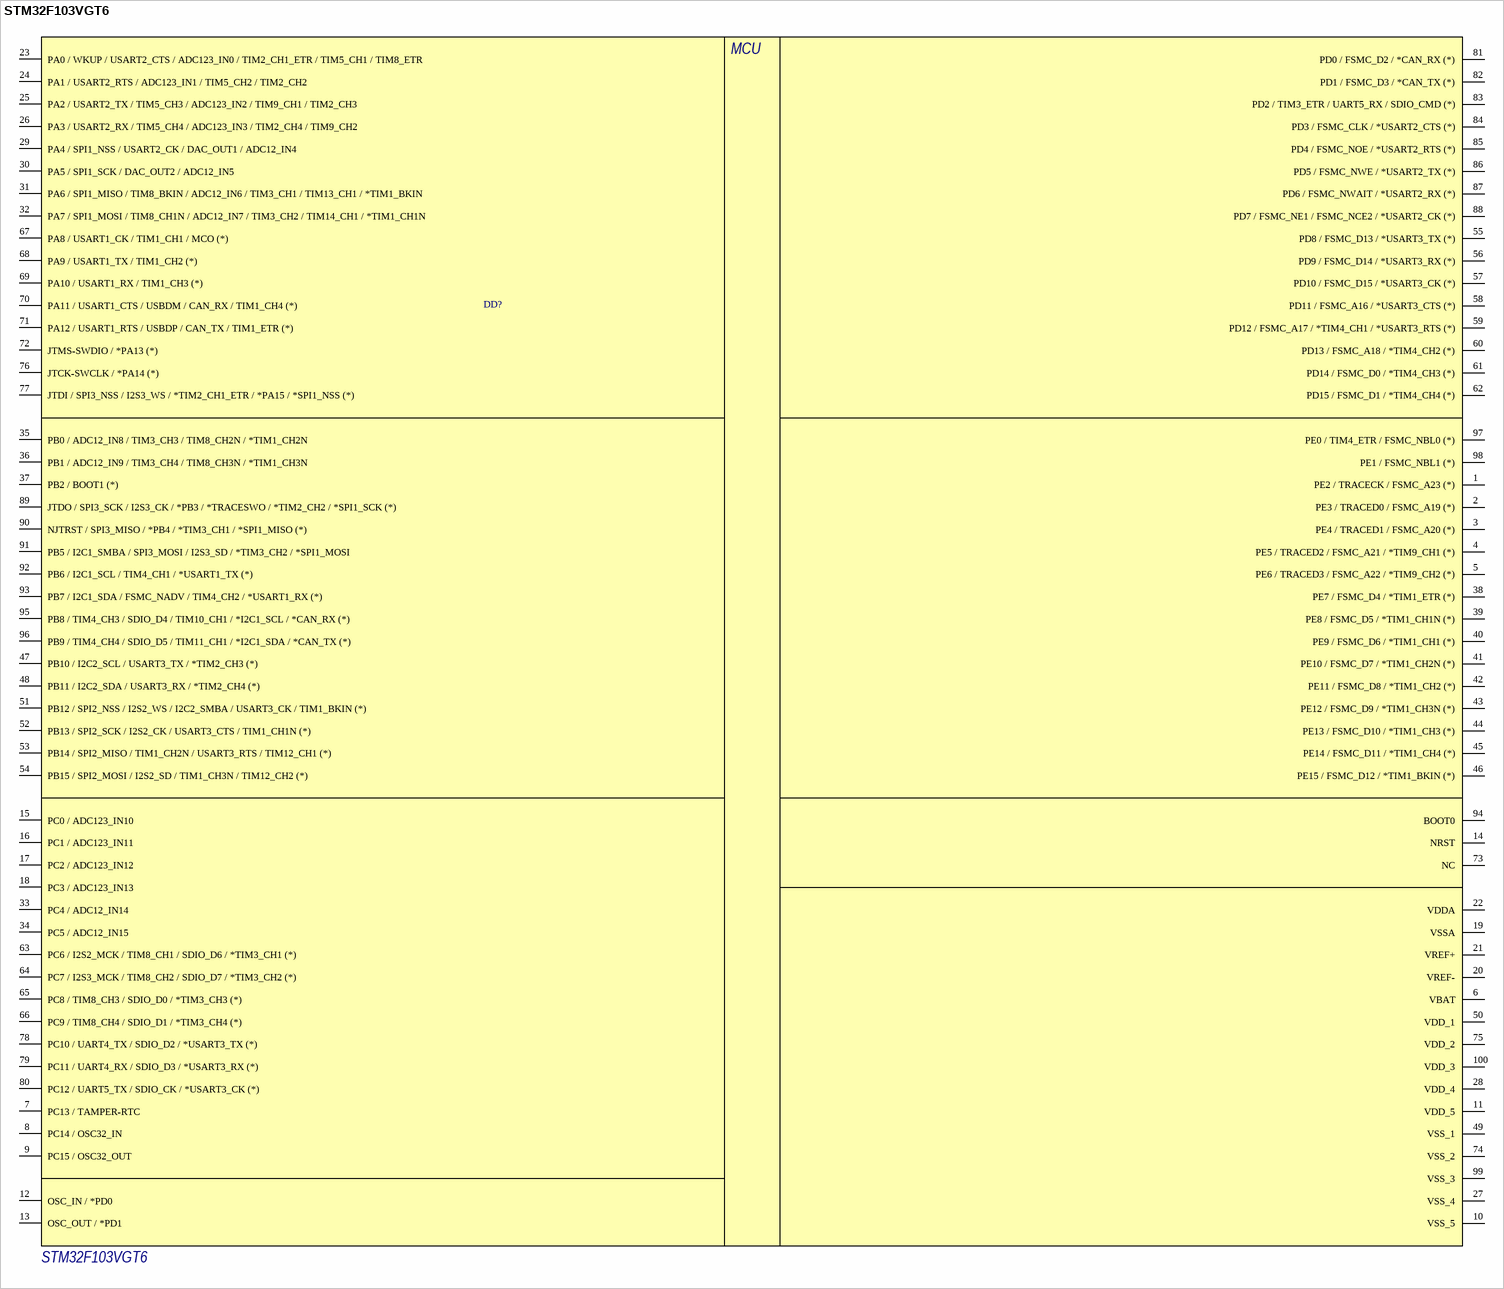
[diagram p27: symbol STM32F103VGT6]

## STM32F103VGT6
designator DD?
Микроконтроллер; Name: STM32F103VGT6
footprint LQPF100_A
footprint LQPF100_H
pins: 1 PE2 / TRACECK / FSMC_A23 (*), 2 PE3 / TRACED0 / FSMC_A19 (*), 3 PE4 / TRACED1 / FSMC_A20 (*), 4 PE5 / TRACED2 / FSMC_A21 / *TIM9_CH1 (*), 5 PE6 / TRACED3 / FSMC_A22 / *TIM9_CH2 (*), 6 VBAT, 7 PC13 / TAMPER-RTC, 8 PC14 / OSC32_IN, 9 PC15 / OSC32_OUT, 10 VSS_5, 11 VDD_5, 12 OSC_IN / *PD0, 13 OSC_OUT / *PD1, 14 NRST, 15 PC0 / ADC123_IN10, 16 PC1 / ADC123_IN11, 17 PC2 / ADC123_IN12, 18 PC3 / ADC123_IN13, 19 VSSA, 20 VREF-, 21 VREF+, 22 VDDA, 23 PA0 / WKUP / USART2_CTS / ADC123_IN0 / TIM2_CH1_ETR / TIM5_CH1 / TIM8_ETR, 24 PA1 / USART2_RTS / ADC123_IN1 / TIM5_CH2 / TIM2_CH2, 25 PA2 / USART2_TX / TIM5_CH3 / ADC123_IN2 / TIM9_CH1 / TIM2_CH3, 26 PA3 / USART2_RX / TIM5_CH4 / ADC123_IN3 / TIM2_CH4 / TIM9_CH2, 27 VSS_4, 28 VDD_4, 29 PA4 / SPI1_NSS / USART2_CK / DAC_OUT1 / ADC12_IN4, 30 PA5 / SPI1_SCK / DAC_OUT2 / ADC12_IN5, 31 PA6 / SPI1_MISO / TIM8_BKIN / ADC12_IN6 / TIM3_CH1 / TIM13_CH1 / *TIM1_BKIN, 32 PA7 / SPI1_MOSI / TIM8_CH1N / ADC12_IN7 / TIM3_CH2 / TIM14_CH1 / *TIM1_CH1N, 33 PC4 / ADC12_IN14, 34 PC5 / ADC12_IN15, 35 PB0 / ADC12_IN8 / TIM3_CH3 / TIM8_CH2N / *TIM1_CH2N, 36 PB1 / ADC12_IN9 / TIM3_CH4 / TIM8_CH3N / *TIM1_CH3N, 37 PB2 / BOOT1 (*), 38 PE7 / FSMC_D4 / *TIM1_ETR (*), 39 PE8 / FSMC_D5 / *TIM1_CH1N (*), 40 PE9 / FSMC_D6 / *TIM1_CH1 (*), 41 PE10 / FSMC_D7 / *TIM1_CH2N (*), 42 PE11 / FSMC_D8 / *TIM1_CH2 (*), 43 PE12 / FSMC_D9 / *TIM1_CH3N (*), 44 PE13 / FSMC_D10 / *TIM1_CH3 (*), 45 PE14 / FSMC_D11 / *TIM1_CH4 (*), 46 PE15 / FSMC_D12 / *TIM1_BKIN (*), 47 PB10 / I2C2_SCL / USART3_TX / *TIM2_CH3 (*), 48 PB11 / I2C2_SDA / USART3_RX / *TIM2_CH4 (*), 49 VSS_1, 50 VDD_1, 51 PB12 / SPI2_NSS / I2S2_WS / I2C2_SMBA / USART3_CK / TIM1_BKIN (*), 52 PB13 / SPI2_SCK / I2S2_CK / USART3_CTS / TIM1_CH1N (*), 53 PB14 / SPI2_MISO / TIM1_CH2N / USART3_RTS / TIM12_CH1 (*), 54 PB15 / SPI2_MOSI / I2S2_SD / TIM1_CH3N / TIM12_CH2 (*), 55 PD8 / FSMC_D13 / *USART3_TX (*), 56 PD9 / FSMC_D14 / *USART3_RX (*), 57 PD10 / FSMC_D15 / *USART3_CK (*), 58 PD11 / FSMC_A16 / *USART3_CTS (*), 59 PD12 / FSMC_A17 / *TIM4_CH1 / *USART3_RTS (*), 60 PD13 / FSMC_A18 / *TIM4_CH2 (*), 61 PD14 / FSMC_D0 / *TIM4_CH3 (*), 62 PD15 / FSMC_D1 / *TIM4_CH4 (*), 63 PC6 / I2S2_MCK / TIM8_CH1 / SDIO_D6 / *TIM3_CH1 (*), 64 PC7 / I2S3_MCK / TIM8_CH2 / SDIO_D7 / *TIM3_CH2 (*), 65 PC8 / TIM8_CH3 / SDIO_D0 / *TIM3_CH3 (*), 66 PC9 / TIM8_CH4 / SDIO_D1 / *TIM3_CH4 (*), 67 PA8 / USART1_CK / TIM1_CH1 / MCO (*), 68 PA9 / USART1_TX / TIM1_CH2 (*), 69 PA10 / USART1_RX / TIM1_CH3 (*), 70 PA11 / USART1_CTS / USBDM / CAN_RX / TIM1_CH4 (*), 71 PA12 / USART1_RTS / USBDP / CAN_TX / TIM1_ETR (*), 72 JTMS-SWDIO / *PA13 (*), 73 NC, 74 VSS_2, 75 VDD_2, 76 JTCK-SWCLK / *PA14 (*), 77 JTDI / SPI3_NSS / I2S3_WS / *TIM2_CH1_ETR / *PA15 / *SPI1_NSS (*), 78 PC10 / UART4_TX / SDIO_D2 / *USART3_TX (*), 79 PC11 / UART4_RX / SDIO_D3 / *USART3_RX (*), 80 PC12 / UART5_TX / SDIO_CK / *USART3_CK (*), 81 PD0 / FSMC_D2 / *CAN_RX (*), 82 PD1 / FSMC_D3 / *CAN_TX (*), 83 PD2 / TIM3_ETR / UART5_RX / SDIO_CMD (*), 84 PD3 / FSMC_CLK / *USART2_CTS (*), 85 PD4 / FSMC_NOE / *USART2_RTS (*), 86 PD5 / FSMC_NWE / *USART2_TX (*), 87 PD6 / FSMC_NWAIT / *USART2_RX (*), 88 PD7 / FSMC_NE1 / FSMC_NCE2 / *USART2_CK (*), 89 JTDO / SPI3_SCK / I2S3_CK / *PB3 / *TRACESWO / *TIM2_CH2 / *SPI1_SCK (*), 90 NJTRST / SPI3_MISO / *PB4 / *TIM3_CH1 / *SPI1_MISO (*), 91 PB5 / I2C1_SMBA / SPI3_MOSI / I2S3_SD / *TIM3_CH2 / *SPI1_MOSI, 92 PB6 / I2C1_SCL / TIM4_CH1 / *USART1_TX (*), 93 PB7 / I2C1_SDA / FSMC_NADV / TIM4_CH2 / *USART1_RX (*), 94 BOOT0, 95 PB8 / TIM4_CH3 / SDIO_D4 / TIM10_CH1 / *I2C1_SCL / *CAN_RX (*), 96 PB9 / TIM4_CH4 / SDIO_D5 / TIM11_CH1 / *I2C1_SDA / *CAN_TX (*), 97 PE0 / TIM4_ETR / FSMC_NBL0 (*), 98 PE1 / FSMC_NBL1 (*), 99 VSS_3, 100 VDD_3
text: MCU

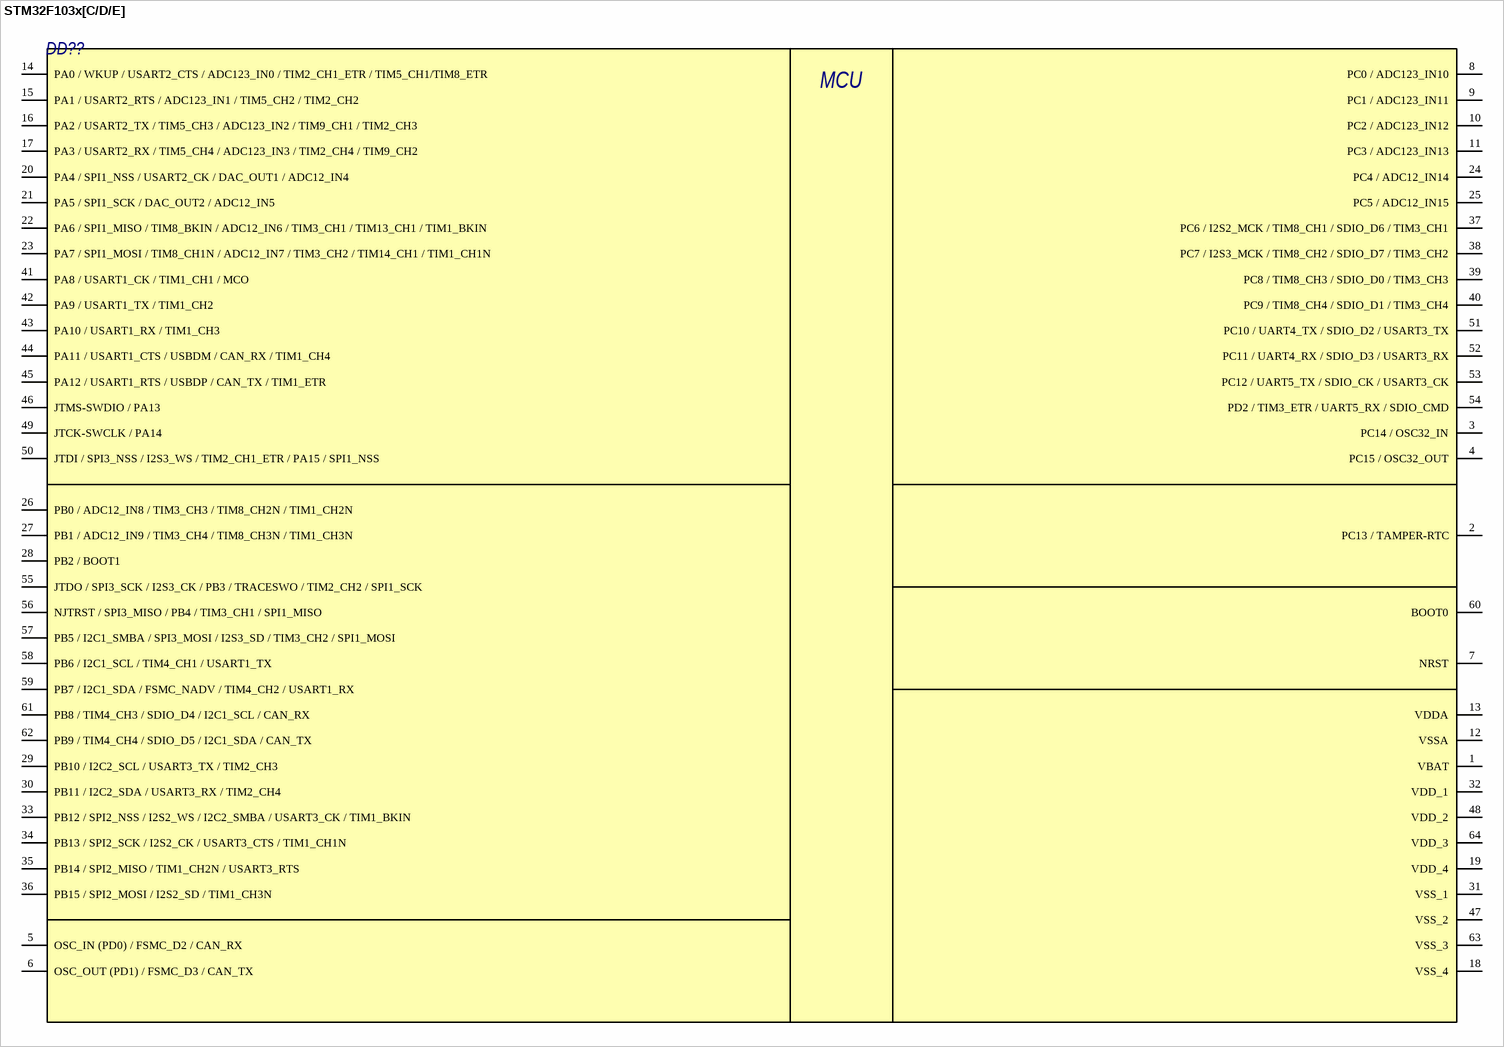
[diagram p28: symbol STM32F103x[C/D/E]]

## STM32F103x[C/D/E]
designator DD??
Микроконтроллер 64-pin; Name: STM32F103x[C/D/E]
footprint LQFP64_H (64-Pin Low Profile Quad Pack 0.5 mm Pitch, IPC High Density)
footprint LQFP64_L (TSQFP, 64-Leads, Body 10,00x10,00mm, Pitch 0,50mm, IPC Medium Density)
pins: 1 VBAT, 2 PC13 / TAMPER-RTC, 3 PC14 / OSC32_IN, 4 PC15 / OSC32_OUT, 5 OSC_IN (PD0) / FSMC_D2 / CAN_RX, 6 OSC_OUT (PD1) / FSMC_D3 / CAN_TX, 7 NRST, 8 PC0 / ADC123_IN10, 9 PC1 / ADC123_IN11, 10 PC2 / ADC123_IN12, 11 PC3 / ADC123_IN13, 12 VSSA, 13 VDDA, 14 PA0 / WKUP / USART2_CTS / ADC123_IN0 / TIM2_CH1_ETR / TIM5_CH1/TIM8_ETR, 15 PA1 / USART2_RTS / ADC123_IN1 / TIM5_CH2 / TIM2_CH2, 16 PA2 / USART2_TX / TIM5_CH3 / ADC123_IN2 / TIM9_CH1 / TIM2_CH3, 17 PA3 / USART2_RX / TIM5_CH4 / ADC123_IN3 / TIM2_CH4 / TIM9_CH2, 18 VSS_4, 19 VDD_4, 20 PA4 / SPI1_NSS / USART2_CK / DAC_OUT1 / ADC12_IN4, 21 PA5 / SPI1_SCK / DAC_OUT2 / ADC12_IN5, 22 PA6 / SPI1_MISO / TIM8_BKIN / ADC12_IN6 / TIM3_CH1 / TIM13_CH1 / TIM1_BKIN, 23 PA7 / SPI1_MOSI / TIM8_CH1N / ADC12_IN7 / TIM3_CH2 / TIM14_CH1 / TIM1_CH1N, 24 PC4 / ADC12_IN14, 25 PC5 / ADC12_IN15, 26 PB0 / ADC12_IN8 / TIM3_CH3 / TIM8_CH2N / TIM1_CH2N, 27 PB1 / ADC12_IN9 / TIM3_CH4 / TIM8_CH3N / TIM1_CH3N, 28 PB2 / BOOT1, 29 PB10 / I2C2_SCL / USART3_TX / TIM2_CH3, 30 PB11 / I2C2_SDA / USART3_RX / TIM2_CH4, 31 VSS_1, 32 VDD_1, 33 PB12 / SPI2_NSS / I2S2_WS / I2C2_SMBA / USART3_CK / TIM1_BKIN, 34 PB13 / SPI2_SCK / I2S2_CK / USART3_CTS / TIM1_CH1N, 35 PB14 / SPI2_MISO / TIM1_CH2N / USART3_RTS, 36 PB15 / SPI2_MOSI / I2S2_SD / TIM1_CH3N , 37 PC6 / I2S2_MCK / TIM8_CH1 / SDIO_D6 / TIM3_CH1, 38 PC7 / I2S3_MCK / TIM8_CH2 / SDIO_D7 / TIM3_CH2, 39 PC8 / TIM8_CH3 / SDIO_D0 / TIM3_CH3, 40 PC9 / TIM8_CH4 / SDIO_D1 / TIM3_CH4, 41 PA8 / USART1_CK / TIM1_CH1 / MCO, 42 PA9 / USART1_TX / TIM1_CH2, 43 PA10 / USART1_RX / TIM1_CH3, 44 PA11 / USART1_CTS / USBDM / CAN_RX / TIM1_CH4, 45 PA12 / USART1_RTS / USBDP / CAN_TX / TIM1_ETR, 46 JTMS-SWDIO / PA13, 47 VSS_2, 48 VDD_2, 49 JTCK-SWCLK / PA14, 50 JTDI / SPI3_NSS / I2S3_WS / TIM2_CH1_ETR / PA15 / SPI1_NSS, 51 PC10 / UART4_TX / SDIO_D2 / USART3_TX, 52 PC11 / UART4_RX / SDIO_D3 / USART3_RX, 53 PC12 / UART5_TX / SDIO_CK / USART3_CK, 54 PD2 / TIM3_ETR / UART5_RX / SDIO_CMD, 55 JTDO / SPI3_SCK / I2S3_CK / PB3 / TRACESWO / TIM2_CH2 / SPI1_SCK, 56 NJTRST / SPI3_MISO / PB4 / TIM3_CH1 / SPI1_MISO, 57 PB5 / I2C1_SMBA / SPI3_MOSI / I2S3_SD / TIM3_CH2 / SPI1_MOSI, 58 PB6 / I2C1_SCL / TIM4_CH1 / USART1_TX, 59 PB7 / I2C1_SDA / FSMC_NADV / TIM4_CH2 / USART1_RX, 60 BOOT0, 61 PB8 / TIM4_CH3 / SDIO_D4 / I2C1_SCL / CAN_RX, 62 PB9 / TIM4_CH4 / SDIO_D5 / I2C1_SDA / CAN_TX, 63 VSS_3, 64 VDD_3
text: MCU

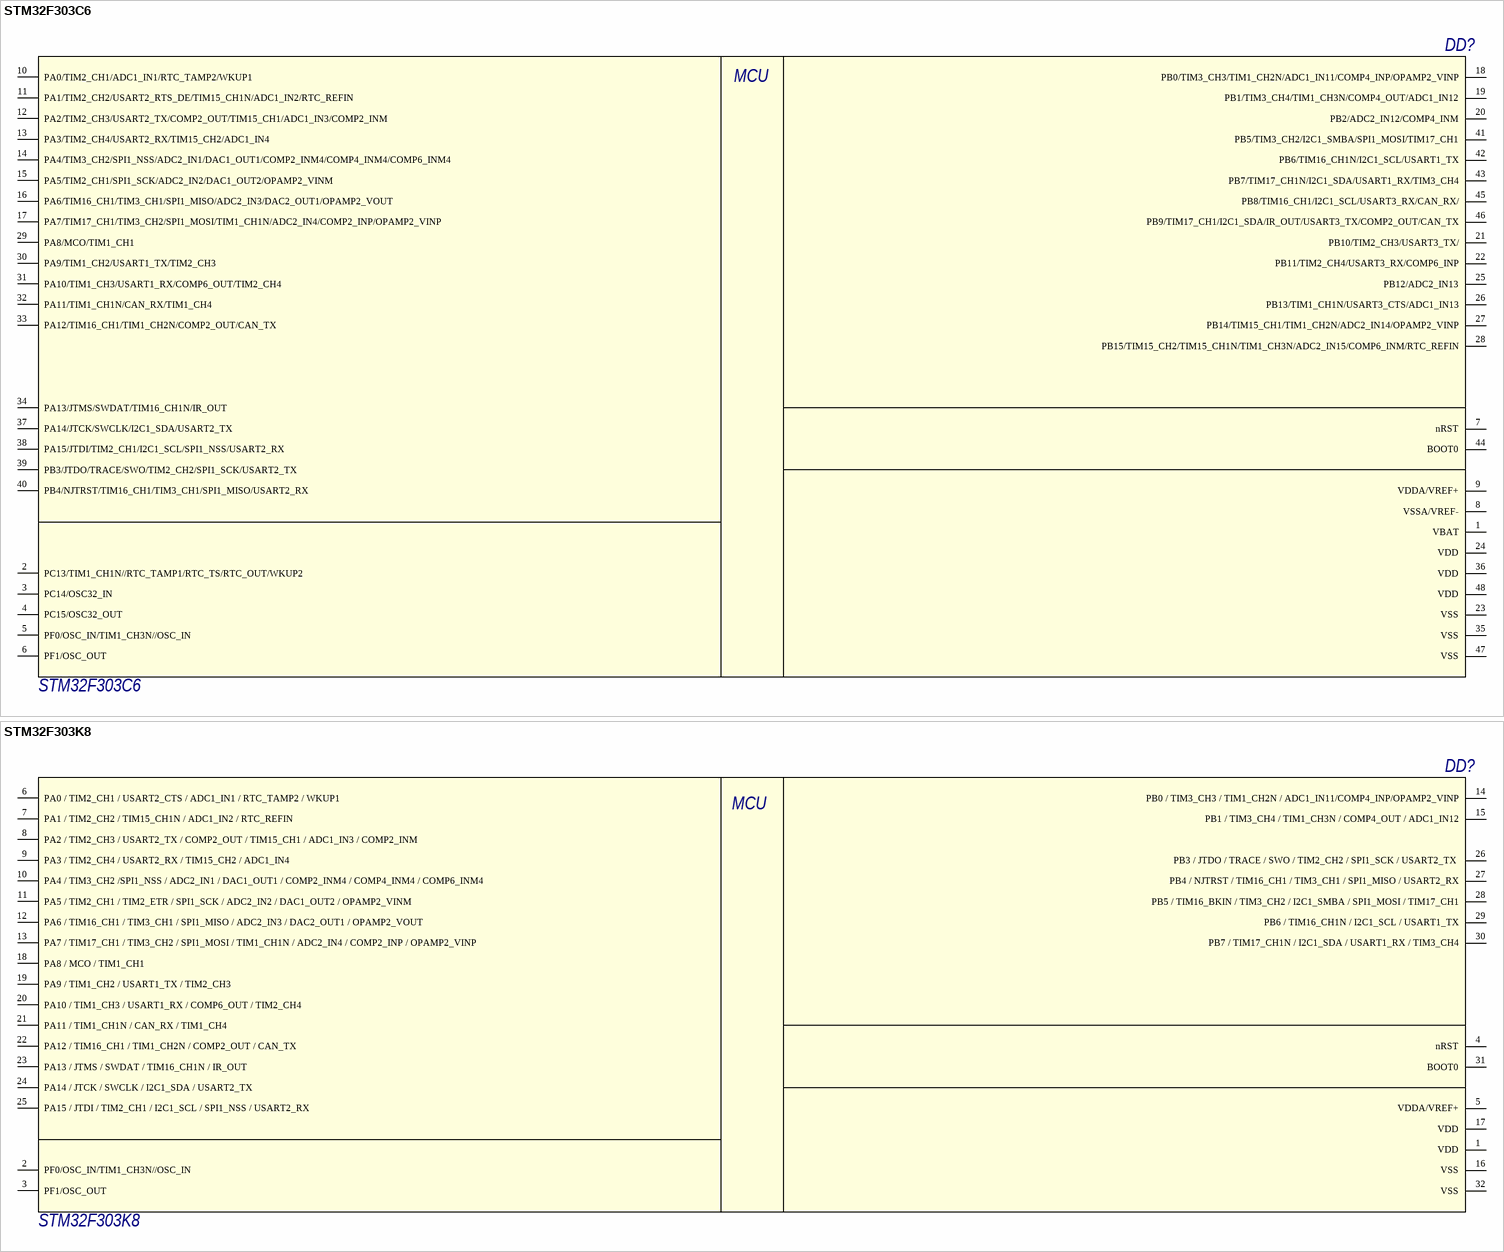
[diagram p29: symbols STM32F303C6 to STM32F303K8]

## STM32F303C6
designator DD?
Микроконтроллер; Name: STM32F303C6
footprint LQFP48 (Thin QFP, 48-Leads, Body 7x7mm, Pitch 0.5mm, IPC High Density)
pins: 1 VBAT, 2 PC13/TIM1_CH1N//RTC_TAMP1/RTC_TS/RTC_OUT/WKUP2, 3 PC14/OSC32_IN, 4 PC15/OSC32_OUT, 5 PF0/OSC_IN/TIM1_CH3N//OSC_IN, 6 PF1/OSC_OUT, 7 nRST, 8 VSSA/VREF-, 9 VDDA/VREF+, 10 PA0/TIM2_CH1/ADC1_IN1/RTC_TAMP2/WKUP1, 11 PA1/TIM2_CH2/USART2_RTS_DE/TIM15_CH1N/ADC1_IN2/RTC_REFIN, 12 PA2/TIM2_CH3/USART2_TX/COMP2_OUT/TIM15_CH1/ADC1_IN3/COMP2_INM, 13 PA3/TIM2_CH4/USART2_RX/TIM15_CH2/ADC1_IN4, 14 PA4/TIM3_CH2/SPI1_NSS/ADC2_IN1/DAC1_OUT1/COMP2_INM4/COMP4_INM4/COMP6_INM4, 15 PA5/TIM2_CH1/SPI1_SCK/ADC2_IN2/DAC1_OUT2/OPAMP2_VINM, 16 PA6/TIM16_CH1/TIM3_CH1/SPI1_MISO/ADC2_IN3/DAC2_OUT1/OPAMP2_VOUT, 17 PA7/TIM17_CH1/TIM3_CH2/SPI1_MOSI/TIM1_CH1N/ADC2_IN4/COMP2_INP/OPAMP2_VINP, 18 PB0/TIM3_CH3/TIM1_CH2N/ADC1_IN11/COMP4_INP/OPAMP2_VINP, 19 PB1/TIM3_CH4/TIM1_CH3N/COMP4_OUT/ADC1_IN12, 20 PB2/ADC2_IN12/COMP4_INM, 21 PB10/TIM2_CH3/USART3_TX/, 22 PB11/TIM2_CH4/USART3_RX/COMP6_INP, 23 VSS, 24 VDD, 25 PB12/ADC2_IN13, 26 PB13/TIM1_CH1N/USART3_CTS/ADC1_IN13, 27 PB14/TIM15_CH1/TIM1_CH2N/ADC2_IN14/OPAMP2_VINP, 28 PB15/TIM15_CH2/TIM15_CH1N/TIM1_CH3N/ADC2_IN15/COMP6_INM/RTC_REFIN, 29 PA8/MCO/TIM1_CH1, 30 PA9/TIM1_CH2/USART1_TX/TIM2_CH3, 31 PA10/TIM1_CH3/USART1_RX/COMP6_OUT/TIM2_CH4, 32 PA11/TIM1_CH1N/CAN_RX/TIM1_CH4, 33 PA12/TIM16_CH1/TIM1_CH2N/COMP2_OUT/CAN_TX, 34 PA13/JTMS/SWDAT/TIM16_CH1N/IR_OUT, 35 VSS, 36 VDD, 37 PA14/JTCK/SWCLK/I2C1_SDA/USART2_TX, 38 PA15/JTDI/TIM2_CH1/I2C1_SCL/SPI1_NSS/USART2_RX, 39 PB3/JTDO/TRACE/SWO/TIM2_CH2/SPI1_SCK/USART2_TX, 40 PB4/NJTRST/TIM16_CH1/TIM3_CH1/SPI1_MISO/USART2_RX, 41 PB5/TIM3_CH2/I2C1_SMBA/SPI1_MOSI/TIM17_CH1, 42 PB6/TIM16_CH1N/I2C1_SCL/USART1_TX, 43 PB7/TIM17_CH1N/I2C1_SDA/USART1_RX/TIM3_CH4, 44 BOOT0, 45 PB8/TIM16_CH1/I2C1_SCL/USART3_RX/CAN_RX/, 46 PB9/TIM17_CH1/I2C1_SDA/IR_OUT/USART3_TX/COMP2_OUT/CAN_TX, 47 VSS, 48 VDD
text: MCU

## STM32F303K8
designator DD?
Микроконтроллер; Name: STM32F303K8
footprint LQFP48 (Thin QFP, 48-Leads, Body 7x7mm, Pitch 0.5mm, IPC High Density)
pins: 1 VDD, 2 PF0/OSC_IN/TIM1_CH3N//OSC_IN, 3 PF1/OSC_OUT, 4 nRST, 5 VDDA/VREF+, 6 PA0 / TIM2_CH1 / USART2_CTS / ADC1_IN1 / RTC_TAMP2 / WKUP1, 7 PA1 / TIM2_CH2 / TIM15_CH1N / ADC1_IN2 / RTC_REFIN, 8 PA2 / TIM2_CH3 / USART2_TX / COMP2_OUT / TIM15_CH1 / ADC1_IN3 / COMP2_INM, 9 PA3 / TIM2_CH4 / USART2_RX / TIM15_CH2 / ADC1_IN4, 10 PA4 / TIM3_CH2 /SPI1_NSS / ADC2_IN1 / DAC1_OUT1 / COMP2_INM4 / COMP4_INM4 / COMP6_INM4, 11 PA5 / TIM2_CH1 / TIM2_ETR / SPI1_SCK / ADC2_IN2 / DAC1_OUT2 / OPAMP2_VINM, 12 PA6 / TIM16_CH1 / TIM3_CH1 / SPI1_MISO / ADC2_IN3 / DAC2_OUT1 / OPAMP2_VOUT, 13 PA7 / TIM17_CH1 / TIM3_CH2 / SPI1_MOSI / TIM1_CH1N / ADC2_IN4 / COMP2_INP / OPAMP2_VINP, 14 PB0 / TIM3_CH3 / TIM1_CH2N / ADC1_IN11/COMP4_INP/OPAMP2_VINP, 15 PB1 / TIM3_CH4 / TIM1_CH3N / COMP4_OUT / ADC1_IN12, 16 VSS, 17 VDD, 18 PA8 / MCO / TIM1_CH1 , 19 PA9 / TIM1_CH2 / USART1_TX / TIM2_CH3 , 20 PA10 / TIM1_CH3 / USART1_RX / COMP6_OUT / TIM2_CH4 , 21 PA11 / TIM1_CH1N / CAN_RX / TIM1_CH4, 22 PA12 / TIM16_CH1 / TIM1_CH2N / COMP2_OUT / CAN_TX, 23 PA13 / JTMS / SWDAT / TIM16_CH1N / IR_OUT , 24 PA14 / JTCK / SWCLK / I2C1_SDA / USART2_TX , 25 PA15 / JTDI / TIM2_CH1 / I2C1_SCL / SPI1_NSS / USART2_RX , 26 PB3 / JTDO / TRACE / SWO / TIM2_CH2 / SPI1_SCK / USART2_TX , 27 PB4 / NJTRST / TIM16_CH1 / TIM3_CH1 / SPI1_MISO / USART2_RX, 28 PB5 / TIM16_BKIN / TIM3_CH2 / I2C1_SMBA / SPI1_MOSI / TIM17_CH1, 29 PB6 / TIM16_CH1N / I2C1_SCL / USART1_TX, 30 PB7 / TIM17_CH1N / I2C1_SDA / USART1_RX / TIM3_CH4, 31 BOOT0, 32 VSS
text: MCU

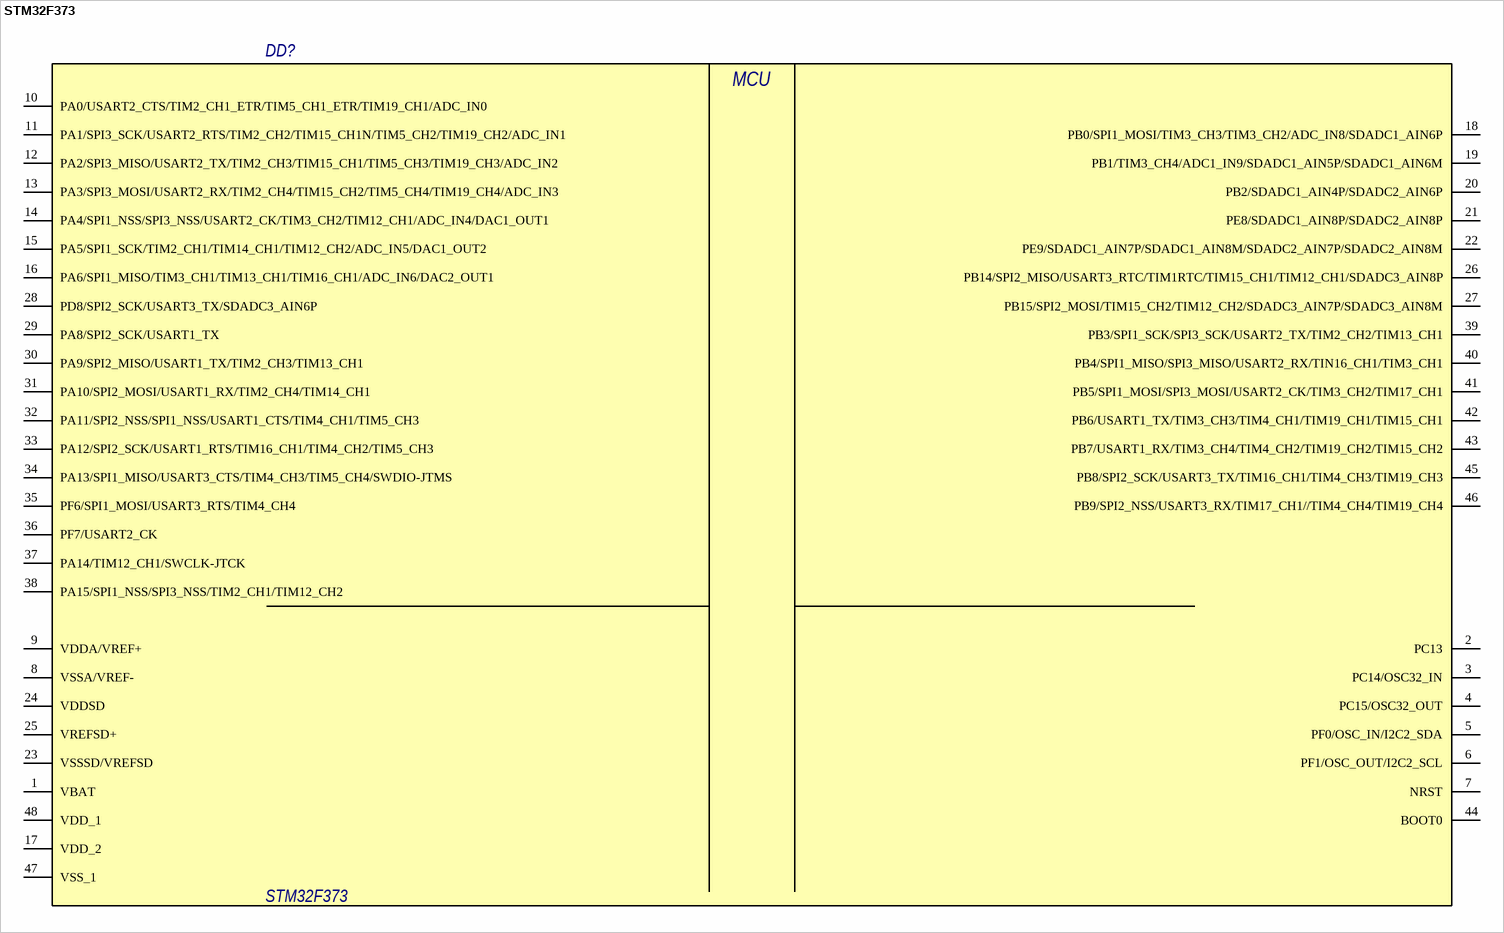
[diagram p30: symbol STM32F373]

## STM32F373
designator DD?
LQFP48; Name: STM32F373
footprint LQFP48 7mm X 7mm
pins: 1 VBAT, 2 PC13, 3 PC14/OSC32_IN, 4 PC15/OSC32_OUT, 5 PF0/OSC_IN/I2C2_SDA, 6 PF1/OSC_OUT/I2C2_SCL, 7 NRST, 8 VSSA/VREF-, 9 VDDA/VREF+, 10 PA0/USART2_CTS/TIM2_CH1_ETR/TIM5_CH1_ETR/TIM19_CH1/ADC_IN0, 11 PA1/SPI3_SCK/USART2_RTS/TIM2_CH2/TIM15_CH1N/TIM5_CH2/TIM19_CH2/ADC_IN1, 12 PA2/SPI3_MISO/USART2_TX/TIM2_CH3/TIM15_CH1/TIM5_CH3/TIM19_CH3/ADC_IN2, 13 PA3/SPI3_MOSI/USART2_RX/TIM2_CH4/TIM15_CH2/TIM5_CH4/TIM19_CH4/ADC_IN3, 14 PA4/SPI1_NSS/SPI3_NSS/USART2_CK/TIM3_CH2/TIM12_CH1/ADC_IN4/DAC1_OUT1, 15 PA5/SPI1_SCK/TIM2_CH1/TIM14_CH1/TIM12_CH2/ADC_IN5/DAC1_OUT2, 16 PA6/SPI1_MISO/TIM3_CH1/TIM13_CH1/TIM16_CH1/ADC_IN6/DAC2_OUT1, 17 VDD_2, 18 PB0/SPI1_MOSI/TIM3_CH3/TIM3_CH2/ADC_IN8/SDADC1_AIN6P, 19 PB1/TIM3_CH4/ADC1_IN9/SDADC1_AIN5P/SDADC1_AIN6M, 20 PB2/SDADC1_AIN4P/SDADC2_AIN6P, 21 PE8/SDADC1_AIN8P/SDADC2_AIN8P, 22 PE9/SDADC1_AIN7P/SDADC1_AIN8M/SDADC2_AIN7P/SDADC2_AIN8M, 23 VSSSD/VREFSD, 24 VDDSD, 25 VREFSD+, 26 PB14/SPI2_MISO/USART3_RTC/TIM1RTC/TIM15_CH1/TIM12_CH1/SDADC3_AIN8P, 27 PB15/SPI2_MOSI/TIM15_CH2/TIM12_CH2/SDADC3_AIN7P/SDADC3_AIN8M, 28 PD8/SPI2_SCK/USART3_TX/SDADC3_AIN6P, 29 PA8/SPI2_SCK/USART1_TX, 30 PA9/SPI2_MISO/USART1_TX/TIM2_CH3/TIM13_CH1, 31 PA10/SPI2_MOSI/USART1_RX/TIM2_CH4/TIM14_CH1, 32 PA11/SPI2_NSS/SPI1_NSS/USART1_CTS/TIM4_CH1/TIM5_CH3, 33 PA12/SPI2_SCK/USART1_RTS/TIM16_CH1/TIM4_CH2/TIM5_CH3, 34 PA13/SPI1_MISO/USART3_CTS/TIM4_CH3/TIM5_CH4/SWDIO-JTMS, 35 PF6/SPI1_MOSI/USART3_RTS/TIM4_CH4, 36 PF7/USART2_CK, 37 PA14/TIM12_CH1/SWCLK-JTCK, 38 PA15/SPI1_NSS/SPI3_NSS/TIM2_CH1/TIM12_CH2, 39 PB3/SPI1_SCK/SPI3_SCK/USART2_TX/TIM2_CH2/TIM13_CH1, 40 PB4/SPI1_MISO/SPI3_MISO/USART2_RX/TIN16_CH1/TIM3_CH1, 41 PB5/SPI1_MOSI/SPI3_MOSI/USART2_CK/TIM3_CH2/TIM17_CH1, 42 PB6/USART1_TX/TIM3_CH3/TIM4_CH1/TIM19_CH1/TIM15_CH1, 43 PB7/USART1_RX/TIM3_CH4/TIM4_CH2/TIM19_CH2/TIM15_CH2, 44 BOOT0, 45 PB8/SPI2_SCK/USART3_TX/TIM16_CH1/TIM4_CH3/TIM19_CH3, 46 PB9/SPI2_NSS/USART3_RX/TIM17_CH1//TIM4_CH4/TIM19_CH4, 47 VSS_1, 48 VDD_1
text: MCU

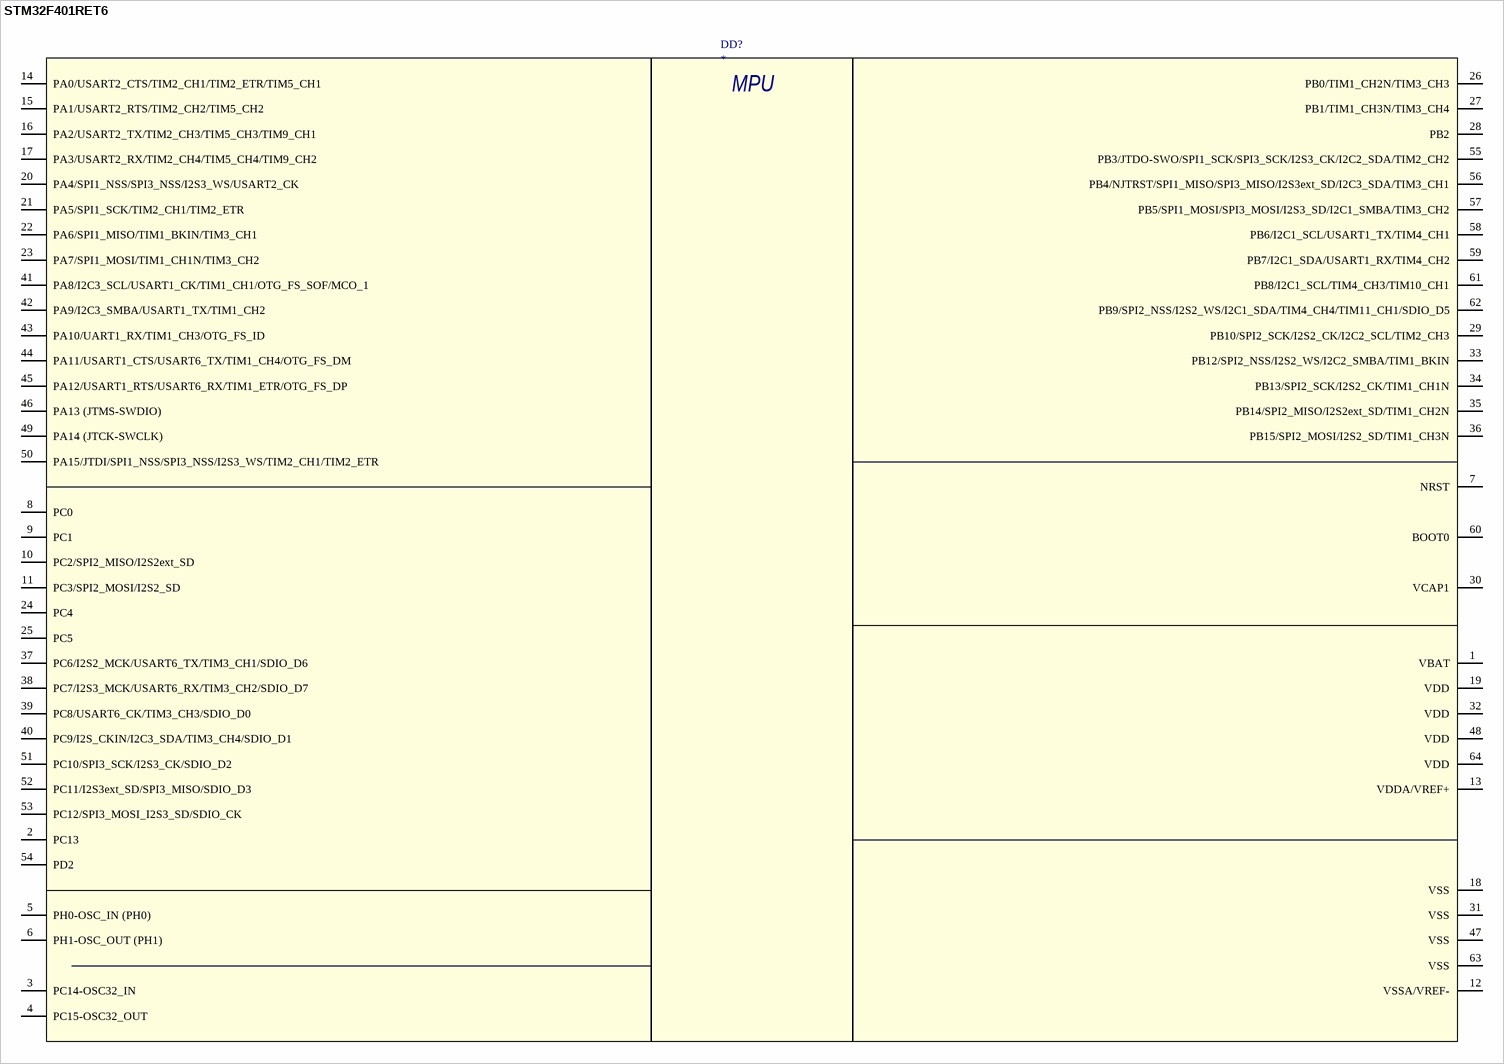
[diagram p31: symbol STM32F401RET6]